# Altium schematic symbol library CHXXX.schlib: 635 symbols (part 2 of 9)
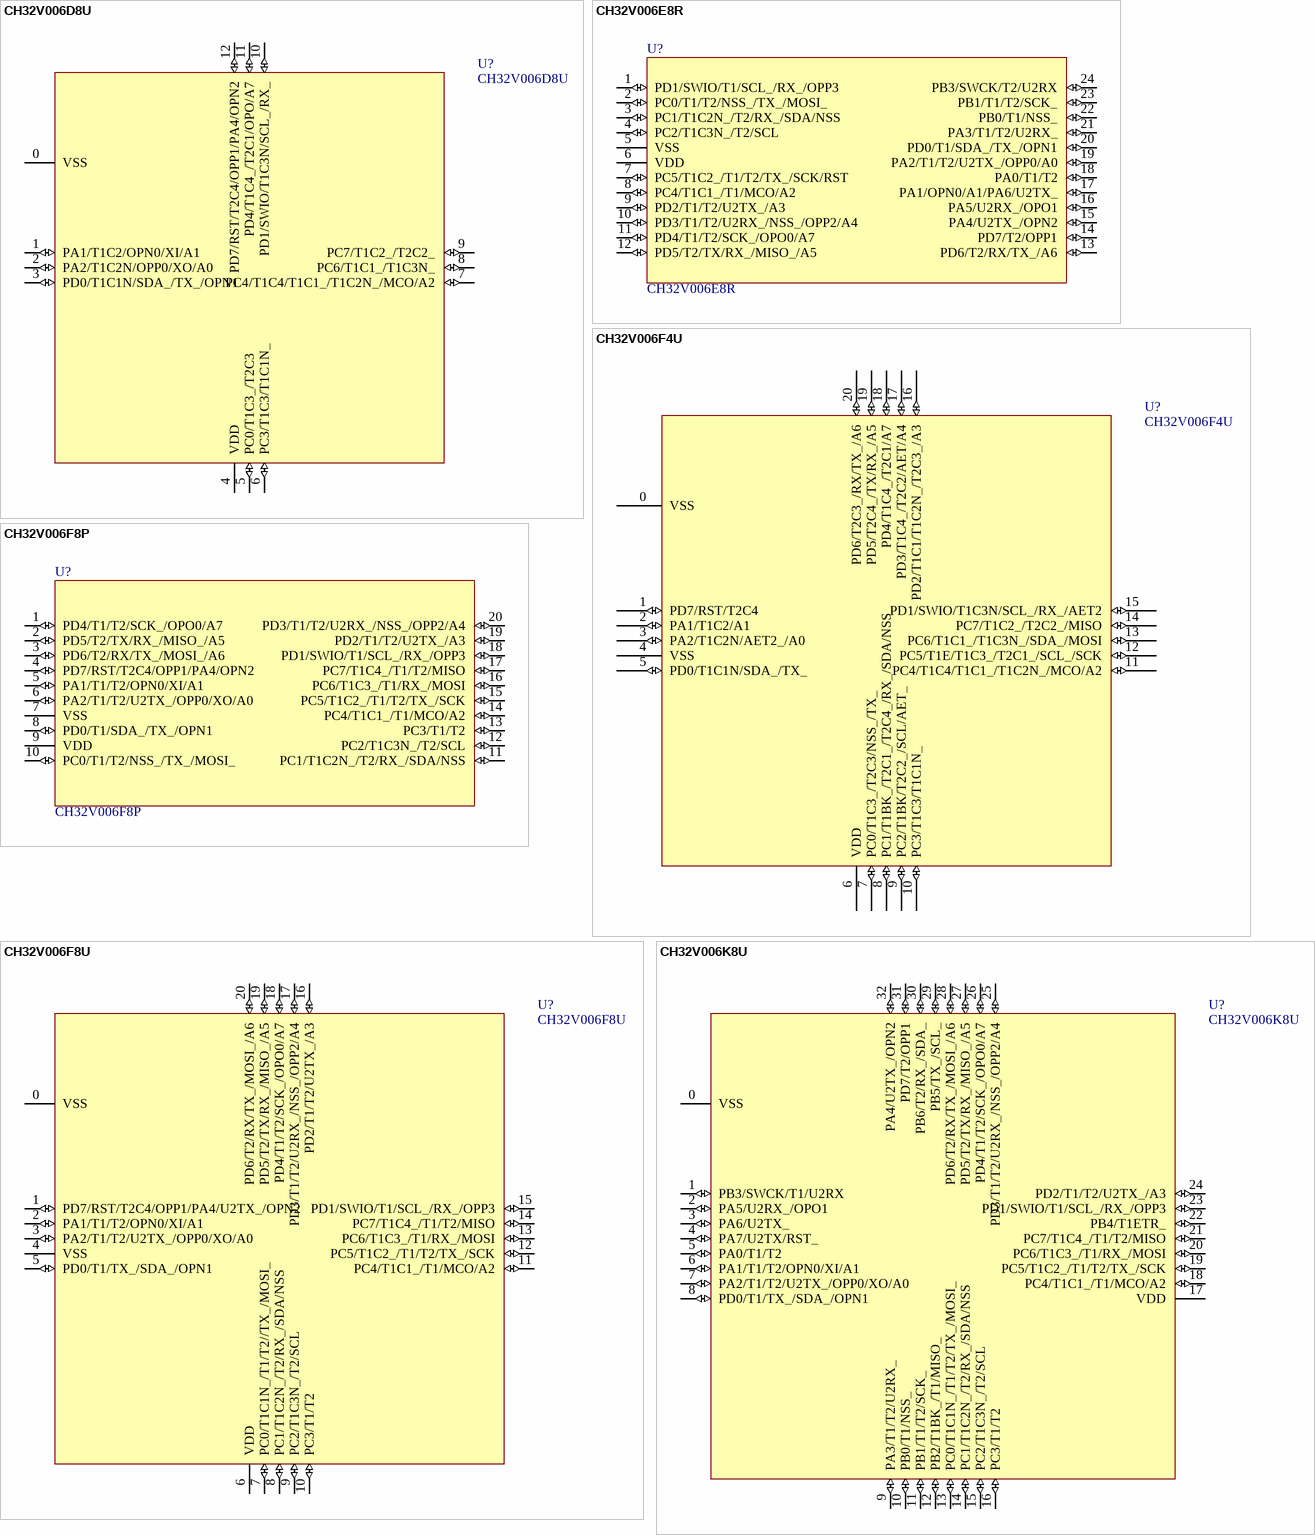
[diagram p87: symbols CH32V006D8U to CH32V006K8U]

## CH32V006F4U
designator U?
RISC-V MCU, 48MHz
footprint QFN20_3X3
pins: 0 VSS (power), 1 PD7/RST/T2C4 (io), 2 PA1/T1C2/A1 (io), 3 PA2/T1C2N/AET2_/A0 (io), 4 VSS (power), 5 PD0/T1C1N/SDA_/TX_ (io), 6 VDD (power), 7 PC0/T1C3_/T2C3/NSS_/TX_ (io), 8 PC1/T1BK_/T2C1_/T2C4_/RX_/SDA/NSS (io), 9 PC2/T1BK/T2C2_/SCL/AET_ (io), 10 PC3/T1C3/T1C1N_ (io), 11 PC4/T1C4/T1C1_/T1C2N_/MCO/A2 (io), 12 PC5/T1E/T1C3_/T2C1_/SCL_/SCK (io), 13 PC6/T1C1_/T1C3N_/SDA_/MOSI (io), 14 PC7/T1C2_/T2C2_/MISO (io), 15 PD1/SWIO/T1C3N/SCL_/RX_/AET2 (io), 16 PD2/T1C1/T1C2N_/T2C3_/A3 (io), 17 PD3/T1C4_/T2C2/AET/A4 (io), 18 PD4/T1C4_/T2C1/A7 (io), 19 PD5/T2C4_/TX/RX_/A5 (io), 20 PD6/T2C3_/RX/TX_/A6 (io)

## CH32V006F8P
designator U?
RISC-V MCU, 48MHz, ADC/OPA/2*UART/I2C/SPI
footprint TSSOP20
pins: 1 PD4/T1/T2/SCK_/OPO0/A7 (io), 2 PD5/T2/TX/RX_/MISO_/A5 (io), 3 PD6/T2/RX/TX_/MOSI_/A6 (io), 4 PD7/RST/T2C4/OPP1/PA4/OPN2 (io), 5 PA1/T1/T2/OPN0/XI/A1 (io), 6 PA2/T1/T2/U2TX_/OPP0/XO/A0 (io), 7 VSS (power), 8 PD0/T1/SDA_/TX_/OPN1 (io), 9 VDD (power), 10 PC0/T1/T2/NSS_/TX_/MOSI_ (io), 11 PC1/T1C2N_/T2/RX_/SDA/NSS (io), 12 PC2/T1C3N_/T2/SCL (io), 13 PC3/T1/T2 (io), 14 PC4/T1C1_/T1/MCO/A2 (io), 15 PC5/T1C2_/T1/T2/TX_/SCK (io), 16 PC6/T1C3_/T1/RX_/MOSI (io), 17 PC7/T1C4_/T1/T2/MISO (io), 18 PD1/SWIO/T1/SCL_/RX_/OPP3 (io), 19 PD2/T1/T2/U2TX_/A3 (io), 20 PD3/T1/T2/U2RX_/NSS_/OPP2/A4 (io)

## CH32V006F8U
designator U?
RISC-V MCU, 48MHz, ADC/OPA/2*UART/I2C/SPI
footprint QFN20_3X3
pins: 0 VSS (power), 1 PD7/RST/T2C4/OPP1/PA4/U2TX_/OPN2 (io), 2 PA1/T1/T2/OPN0/XI/A1 (io), 3 PA2/T1/T2/U2TX_/OPP0/XO/A0 (io), 4 VSS (power), 5 PD0/T1/TX_/SDA_/OPN1 (io), 6 VDD (power), 7 PC0/T1C1N_/T1/T2//TX_/MOSI_ (io), 8 PC1/T1C2N_/T2/RX_/SDA/NSS (io), 9 PC2/T1C3N_/T2/SCL (io), 10 PC3/T1/T2 (io), 11 PC4/T1C1_/T1/MCO/A2 (io), 12 PC5/T1C2_/T1/T2/TX_/SCK (io), 13 PC6/T1C3_/T1/RX_/MOSI (io), 14 PC7/T1C4_/T1/T2/MISO (io), 15 PD1/SWIO/T1/SCL_/RX_/OPP3 (io), 16 PD2/T1/T2/U2TX_/A3 (io), 17 PD3/T1/T2/U2RX_/NSS_/OPP2/A4 (io), 18 PD4/T1/T2/SCK_/OPO0/A7 (io), 19 PD5/T2/TX/RX_/MISO_/A5 (io), 20 PD6/T2/RX/TX_/MOSI_/A6 (io)

## CH32V006K8U
designator U?
RISC-V MCU, 48MHz, ADC/OPA/2*UART/I2C/SPI
footprint QFN32_4X4
pins: 0 VSS (power), 1 PB3/SWCK/T1/U2RX (io), 2 PA5/U2RX_/OPO1 (io), 3 PA6/U2TX_ (io), 4 PA7/U2TX/RST_ (io), 5 PA0/T1/T2 (io), 6 PA1/T1/T2/OPN0/XI/A1 (io), 7 PA2/T1/T2/U2TX_/OPP0/XO/A0 (io), 8 PD0/T1/TX_/SDA_/OPN1 (io), 9 PA3/T1/T2/U2RX_ (io), 10 PB0/T1/NSS_ (io), 11 PB1/T1/T2/SCK_ (io), 12 PB2/T1BK_/T1/MISO_ (io), 13 PC0/T1C1N_/T1/T2/TX_/MOSI_ (io), 14 PC1/T1C2N_/T2/RX_/SDA/NSS (io), 15 PC2/T1C3N_/T2/SCL (io), 16 PC3/T1/T2 (io), 17 VDD (power), 18 PC4/T1C1_/T1/MCO/A2 (io), 19 PC5/T1C2_/T1/T2/TX_/SCK (io), 20 PC6/T1C3_/T1/RX_/MOSI (io), 21 PC7/T1C4_/T1/T2/MISO (io), 22 PB4/T1ETR_ (io), 23 PD1/SWIO/T1/SCL_/RX_/OPP3 (io), 24 PD2/T1/T2/U2TX_/A3 (io), 25 PD3/T1/T2/U2RX_/NSS_/OPP2/A4 (io), 26 PD4/T1/T2/SCK_/OPO0/A7 (io), 27 PD5/T2/TX/RX_/MISO_/A5 (io), 28 PD6/T2/RX/TX_/MOSI_/A6 (io), 29 PB5/TX_/SCL_ (io), 30 PB6/T2/RX_/SDA_ (io), 31 PD7/T2/OPP1 (io), 32 PA4/U2TX_/OPN2 (io)

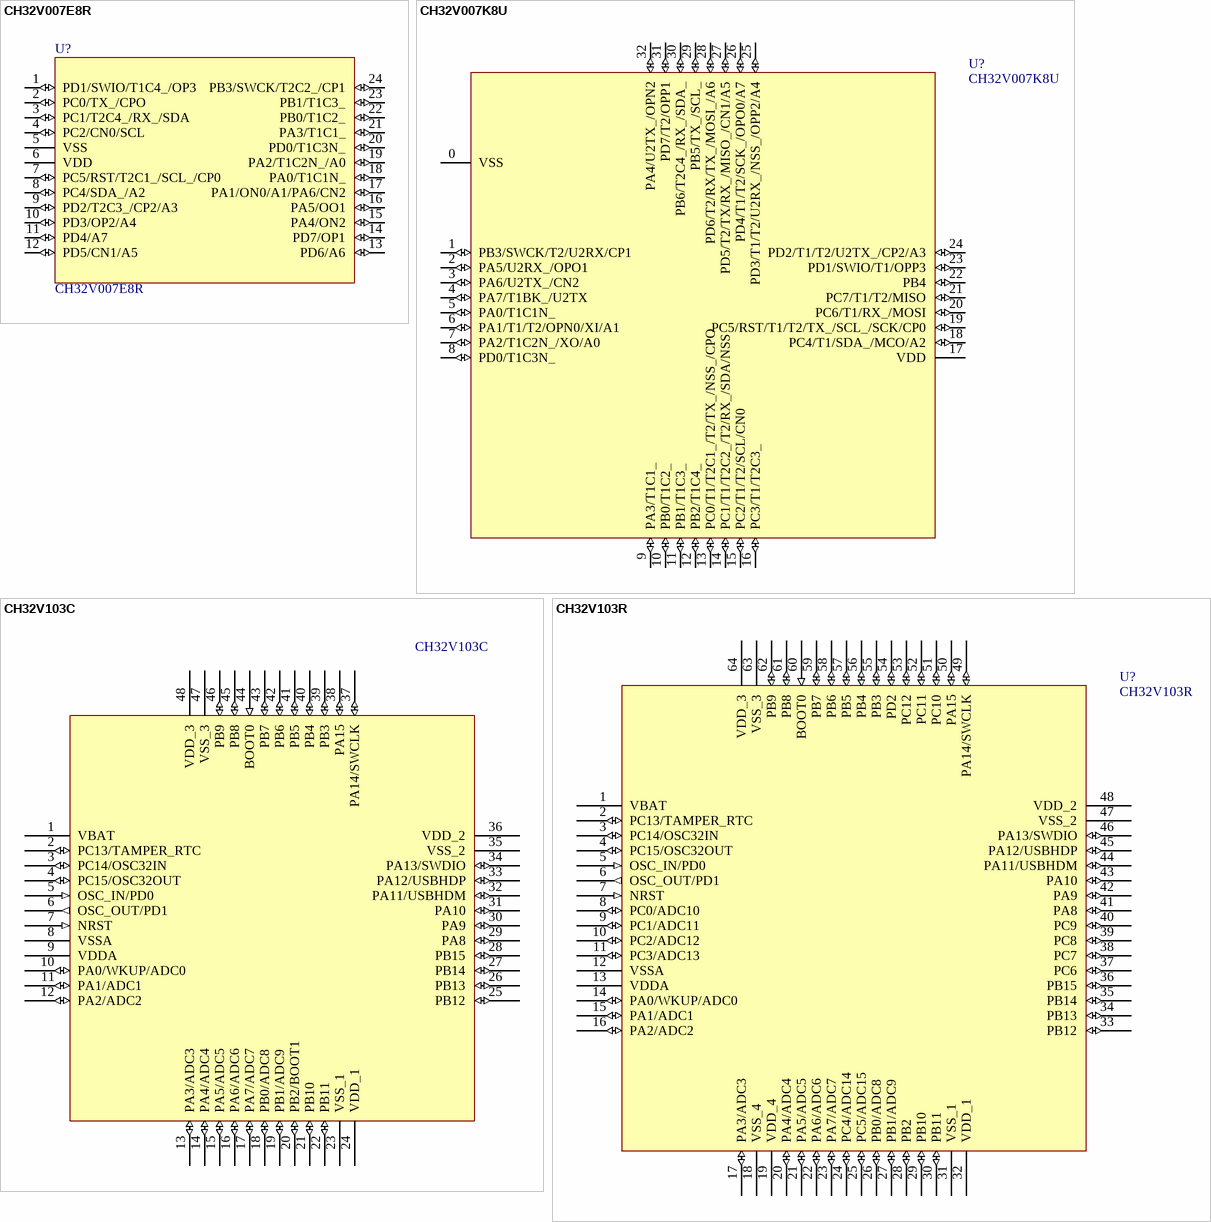
[diagram p10: symbols CH32V007E8R to CH32V103R]

## CH32V007E8R
designator U?
RISC-V MCU, ADC/OPA/CMP/2*UART/I2C/SPI
footprint QSOP24
pins: 1 PD1/SWIO/T1C4_/OP3 (io), 2 PC0/TX_/CPO (io), 3 PC1/T2C4_/RX_/SDA (io), 4 PC2/CN0/SCL (io), 5 VSS (power), 6 VDD (power), 7 PC5/RST/T2C1_/SCL_/CP0 (io), 8 PC4/SDA_/A2 (io), 9 PD2/T2C3_/CP2/A3 (io), 10 PD3/OP2/A4 (io), 11 PD4/A7 (io), 12 PD5/CN1/A5 (io), 13 PD6/A6 (io), 14 PD7/OP1 (io), 15 PA4/ON2 (io), 16 PA5/OO1 (io), 17 PA1/ON0/A1/PA6/CN2 (io), 18 PA0/T1C1N_ (io), 19 PA2/T1C2N_/A0 (io), 20 PD0/T1C3N_ (io), 21 PA3/T1C1_ (io), 22 PB0/T1C2_ (io), 23 PB1/T1C3_ (io), 24 PB3/SWCK/T2C2_/CP1 (io)

## CH32V007K8U
designator U?
RISC-V MCU, ADC/OPA/CMP/2*UART/I2C/SPI
footprint QFN32_4X4
pins: 0 VSS (power), 1 PB3/SWCK/T2/U2RX/CP1 (io), 2 PA5/U2RX_/OPO1 (io), 3 PA6/U2TX_/CN2 (io), 4 PA7/T1BK_/U2TX (io), 5 PA0/T1C1N_ (io), 6 PA1/T1/T2/OPN0/XI/A1 (io), 7 PA2/T1C2N_/XO/A0 (io), 8 PD0/T1C3N_ (io), 9 PA3/T1C1_ (io), 10 PB0/T1C2_ (io), 11 PB1/T1C3_ (io), 12 PB2/T1C4_ (io), 13 PC0/T1/T2C1_/T2/TX_/NSS_/CPO (io), 14 PC1/T1/T2C2_/T2/RX_/SDA/NSS (io), 15 PC2/T1/T2/SCL/CN0 (io), 16 PC3/T1/T2C3_ (io), 17 VDD (power), 18 PC4/T1/SDA_/MCO/A2 (io), 19 PC5/RST/T1/T2/TX_/SCL_/SCK/CP0 (io), 20 PC6/T1/RX_/MOSI (io), 21 PC7/T1/T2/MISO (io), 22 PB4 (io), 23 PD1/SWIO/T1/OPP3 (io), 24 PD2/T1/T2/U2TX_/CP2/A3 (io), 25 PD3/T1/T2/U2RX_/NSS_/OPP2/A4 (io), 26 PD4/T1/T2/SCK_/OPO0/A7 (io), 27 PD5/T2/TX/RX_/MISO_/CN1/A5 (io), 28 PD6/T2/RX/TX_/MOSI_/A6 (io), 29 PB5/TX_/SCL_ (io), 30 PB6/T2C4_/RX_/SDA_ (io), 31 PD7/T2/OPP1 (io), 32 PA4/U2TX_/OPN2 (io)

## CH32V103C
designator U?
RISC-V MCU with USB device & USB host & ADC & Touch Key
footprint LQFP48 (Footprint not found)
footprint QFN48_7X7 (Footprint not found)
pins: 1 VBAT (power), 2 PC13/TAMPER_RTC (io), 3 PC14/OSC32IN (io), 4 PC15/OSC32OUT (io), 5 OSC_IN/PD0 (in), 6 OSC_OUT/PD1 (out), 7 NRST (in), 8 VSSA, 9 VDDA, 10 PA0/WKUP/ADC0 (io), 11 PA1/ADC1 (io), 12 PA2/ADC2 (io), 13 PA3/ADC3 (io), 14 PA4/ADC4 (io), 15 PA5/ADC5 (io), 16 PA6/ADC6 (io), 17 PA7/ADC7 (io), 18 PB0/ADC8 (io), 19 PB1/ADC9 (io), 20 PB2/BOOT1 (io), 21 PB10 (io), 22 PB11 (io), 23 VSS_1, 24 VDD_1, 25 PB12 (io), 26 PB13 (io), 27 PB14 (io), 28 PB15 (io), 29 PA8 (io), 30 PA9 (io), 31 PA10 (io), 32 PA11/USBHDM (io), 33 PA12/USBHDP (io), 34 PA13/SWDIO (io), 35 VSS_2, 36 VDD_2, 37 PA14/SWCLK (io), 38 PA15 (io), 39 PB3 (io), 40 PB4 (io), 41 PB5 (io), 42 PB6 (io), 43 PB7 (io), 44 BOOT0 (in), 45 PB8 (io), 46 PB9 (io), 47 VSS_3, 48 VDD_3

## CH32V103R
designator U?
RISC-V MCU with USB device & USB host & ADC & Touch Key
footprint LQFP64M_10X10
pins: 1 VBAT (power), 2 PC13/TAMPER_RTC (io), 3 PC14/OSC32IN (io), 4 PC15/OSC32OUT (io), 5 OSC_IN/PD0 (in), 6 OSC_OUT/PD1 (out), 7 NRST (in), 8 PC0/ADC10 (io), 9 PC1/ADC11 (io), 10 PC2/ADC12 (io), 11 PC3/ADC13 (io), 12 VSSA (power), 13 VDDA (power), 14 PA0/WKUP/ADC0 (io), 15 PA1/ADC1 (io), 16 PA2/ADC2 (io), 17 PA3/ADC3 (io), 18 VSS_4 (power), 19 VDD_4 (power), 20 PA4/ADC4 (io), 21 PA5/ADC5 (io), 22 PA6/ADC6 (io), 23 PA7/ADC7 (io), 24 PC4/ADC14 (io), 25 PC5/ADC15 (io), 26 PB0/ADC8 (io), 27 PB1/ADC9 (io), 28 PB2 (io), 29 PB10 (io), 30 PB11 (io), 31 VSS_1 (power), 32 VDD_1 (power), 33 PB12 (io), 34 PB13 (io), 35 PB14 (io), 36 PB15 (io), 37 PC6 (io), 38 PC7 (io), 39 PC8 (io), 40 PC9 (io), 41 PA8 (io), 42 PA9 (io), 43 PA10 (io), 44 PA11/USBHDM (io), 45 PA12/USBHDP (io), 46 PA13/SWDIO (io), 47 VSS_2 (power), 48 VDD_2 (power), 49 PA14/SWCLK (io), 50 PA15 (io), 51 PC10 (io), 52 PC11 (io), 53 PC12 (io), 54 PD2 (io), 55 PB3 (io), 56 PB4 (io), 57 PB5 (io), 58 PB6 (io), 59 PB7 (io), 60 BOOT0 (in), 61 PB8 (io), 62 PB9 (io), 63 VSS_3 (power), 64 VDD_3 (power)

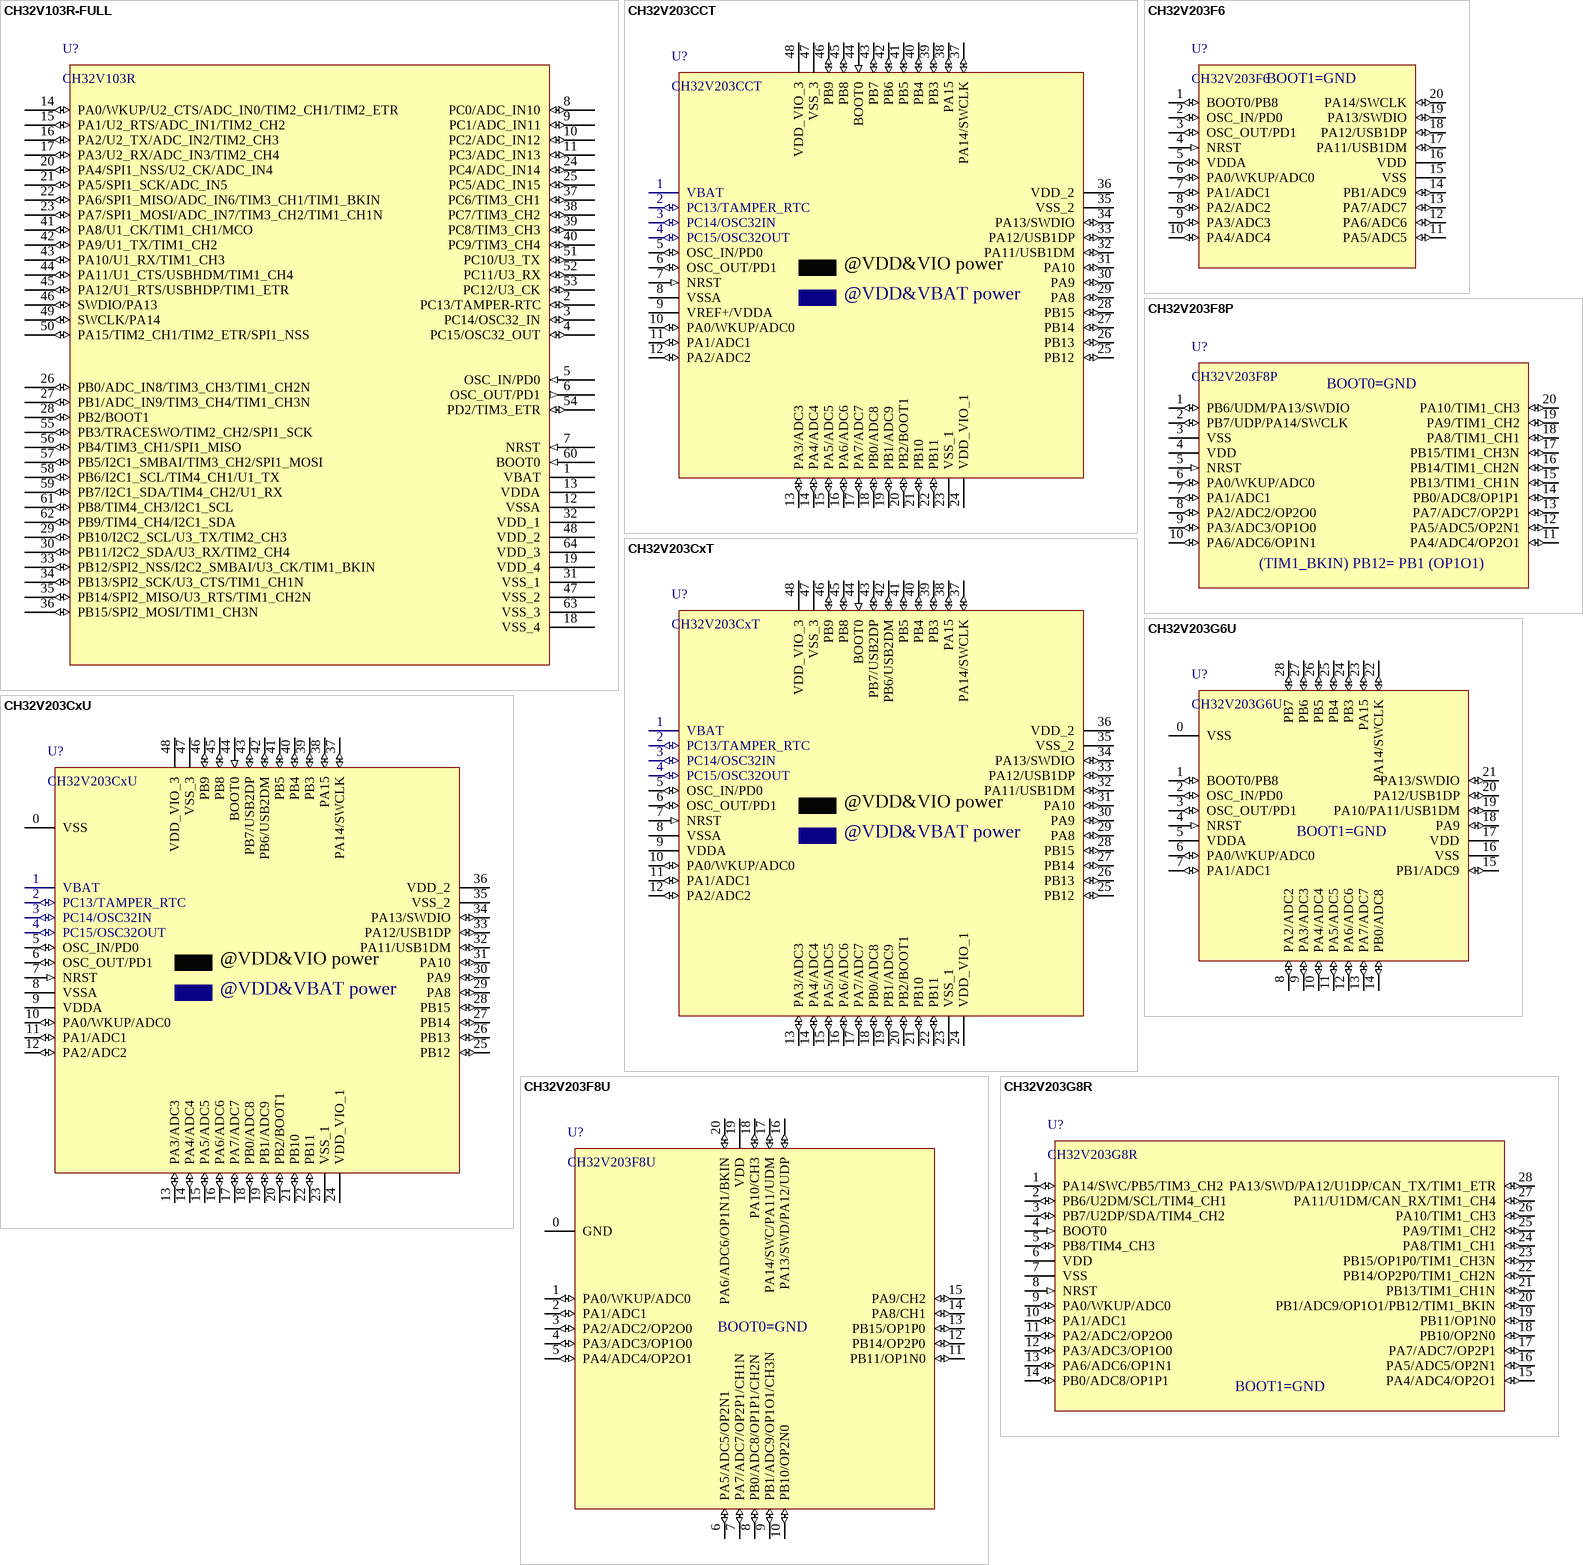
[diagram p11: symbols CH32V103R-FULL to CH32V203G8R]

## CH32V103R-FULL
designator U?, comment CH32V103R
RISC-V MCU with USB device & USB host & ADC & Touch Key
footprint LQFP64M_10X10 (Footprint not found)
pins: 1 VBAT (power), 2 PC13/TAMPER-RTC (io), 3 PC14/OSC32_IN (io), 4 PC15/OSC32_OUT (io), 5 OSC_IN/PD0 (in), 6 OSC_OUT/PD1 (out), 7 NRST (in), 8 PC0/ADC_IN10 (io), 9 PC1/ADC_IN11 (io), 10 PC2/ADC_IN12 (io), 11 PC3/ADC_IN13 (io), 12 VSSA (power), 13 VDDA (power), 14 PA0/WKUP/U2_CTS/ADC_IN0/TIM2_CH1/TIM2_ETR (io), 15 PA1/U2_RTS/ADC_IN1/TIM2_CH2 (io), 16 PA2/U2_TX/ADC_IN2/TIM2_CH3 (io), 17 PA3/U2_RX/ADC_IN3/TIM2_CH4 (io), 18 VSS_4 (power), 19 VDD_4 (power), 20 PA4/SPI1_NSS/U2_CK/ADC_IN4 (io), 21 PA5/SPI1_SCK/ADC_IN5 (io), 22 PA6/SPI1_MISO/ADC_IN6/TIM3_CH1/TIM1_BKIN (io), 23 PA7/SPI1_MOSI/ADC_IN7/TIM3_CH2/TIM1_CH1N (io), 24 PC4/ADC_IN14 (io), 25 PC5/ADC_IN15 (io), 26 PB0/ADC_IN8/TIM3_CH3/TIM1_CH2N (io), 27 PB1/ADC_IN9/TIM3_CH4/TIM1_CH3N (io), 28 PB2/BOOT1 (io), 29 PB10/I2C2_SCL/U3_TX/TIM2_CH3 (io), 30 PB11/I2C2_SDA/U3_RX/TIM2_CH4 (io), 31 VSS_1 (power), 32 VDD_1 (power), 33 PB12/SPI2_NSS/I2C2_SMBAI/U3_CK/TIM1_BKIN (io), 34 PB13/SPI2_SCK/U3_CTS/TIM1_CH1N  (io), 35 PB14/SPI2_MISO/U3_RTS/TIM1_CH2N (io), 36 PB15/SPI2_MOSI/TIM1_CH3N (io), 37 PC6/TIM3_CH1 (io), 38 PC7/TIM3_CH2 (io), 39 PC8/TIM3_CH3 (io), 40 PC9/TIM3_CH4 (io), 41 PA8/U1_CK/TIM1_CH1/MCO (io), 42 PA9/U1_TX/TIM1_CH2 (io), 43 PA10/U1_RX/TIM1_CH3 (io), 44 PA11/U1_CTS/USBHDM/TIM1_CH4 (io), 45 PA12/U1_RTS/USBHDP/TIM1_ETR (io), 46 SWDIO/PA13 (io), 47 VSS_2 (power), 48 VDD_2 (power), 49 SWCLK/PA14 (io), 50 PA15/TIM2_CH1/TIM2_ETR/SPI1_NSS (io), 51 PC10/U3_TX (io), 52 PC11/U3_RX (io), 53 PC12/U3_CK (io), 54 PD2/TIM3_ETR (io), 55 PB3/TRACESWO/TIM2_CH2/SPI1_SCK (io), 56 PB4/TIM3_CH1/SPI1_MISO (io), 57 PB5/I2C1_SMBAI/TIM3_CH2/SPI1_MOSI (io), 58 PB6/I2C1_SCL/TIM4_CH1/U1_TX (io), 59 PB7/I2C1_SDA/TIM4_CH2/U1_RX (io), 60 BOOT0 (in), 61 PB8/TIM4_CH3/I2C1_SCL (io), 62 PB9/TIM4_CH4/I2C1_SDA (io), 63 VSS_3 (power), 64 VDD_3 (power)

## CH32V203CCT
designator U?
RISC-V MCU, 192MHz, USB FS, PIOC, ADC, TKEY, 2*OPA, 2*CMP
footprint LQFP48
pins: 1 VBAT (power), 2 PC13/TAMPER_RTC (io), 3 PC14/OSC32IN (io), 4 PC15/OSC32OUT (io), 5 OSC_IN/PD0 (io), 6 OSC_OUT/PD1 (io), 7 NRST (in), 8 VSSA (power), 9 VREF+/VDDA (power), 10 PA0/WKUP/ADC0 (io), 11 PA1/ADC1 (io), 12 PA2/ADC2 (io), 13 PA3/ADC3 (io), 14 PA4/ADC4 (io), 15 PA5/ADC5 (io), 16 PA6/ADC6 (io), 17 PA7/ADC7 (io), 18 PB0/ADC8 (io), 19 PB1/ADC9 (io), 20 PB2/BOOT1 (io), 21 PB10 (io), 22 PB11 (io), 23 VSS_1 (power), 24 VDD_VIO_1 (power), 25 PB12 (io), 26 PB13 (io), 27 PB14 (io), 28 PB15 (io), 29 PA8 (io), 30 PA9 (io), 31 PA10 (io), 32 PA11/USB1DM (io), 33 PA12/USB1DP (io), 34 PA13/SWDIO (io), 35 VSS_2 (power), 36 VDD_2 (power), 37 PA14/SWCLK (io), 38 PA15 (io), 39 PB3 (io), 40 PB4 (io), 41 PB5 (io), 42 PB6 (io), 43 PB7 (io), 44 BOOT0 (in), 45 PB8 (io), 46 PB9 (io), 47 VSS_3 (power), 48 VDD_VIO_3 (power)
text: @VDD&VIO power; @VDD&VBAT power

## CH32V203CxT
designator U?
RISC-V LMD-MCU, 144MHz, 2*USB FS, CAN
footprint LQFP48
pins: 1 VBAT (power), 2 PC13/TAMPER_RTC (io), 3 PC14/OSC32IN (io), 4 PC15/OSC32OUT (io), 5 OSC_IN/PD0 (io), 6 OSC_OUT/PD1 (io), 7 NRST (in), 8 VSSA (power), 9 VDDA (power), 10 PA0/WKUP/ADC0 (io), 11 PA1/ADC1 (io), 12 PA2/ADC2 (io), 13 PA3/ADC3 (io), 14 PA4/ADC4 (io), 15 PA5/ADC5 (io), 16 PA6/ADC6 (io), 17 PA7/ADC7 (io), 18 PB0/ADC8 (io), 19 PB1/ADC9 (io), 20 PB2/BOOT1 (io), 21 PB10 (io), 22 PB11 (io), 23 VSS_1 (power), 24 VDD_VIO_1 (power), 25 PB12 (io), 26 PB13 (io), 27 PB14 (io), 28 PB15 (io), 29 PA8 (io), 30 PA9 (io), 31 PA10 (io), 32 PA11/USB1DM (io), 33 PA12/USB1DP (io), 34 PA13/SWDIO (io), 35 VSS_2 (power), 36 VDD_2 (power), 37 PA14/SWCLK (io), 38 PA15 (io), 39 PB3 (io), 40 PB4 (io), 41 PB5 (io), 42 PB6/USB2DM (io), 43 PB7/USB2DP (io), 44 BOOT0 (in), 45 PB8 (io), 46 PB9 (io), 47 VSS_3 (power), 48 VDD_VIO_3 (power)
text: @VDD&VIO power; @VDD&VBAT power

## CH32V203CxU
designator U?
RISC-V LMD-MCU, 144MHz, 2*USB FS, CAN
footprint QFN48_7X7 (Footprint not found)
pins: 0 VSS (power), 1 VBAT (power), 2 PC13/TAMPER_RTC (io), 3 PC14/OSC32IN (io), 4 PC15/OSC32OUT (io), 5 OSC_IN/PD0 (io), 6 OSC_OUT/PD1 (io), 7 NRST (in), 8 VSSA (power), 9 VDDA (power), 10 PA0/WKUP/ADC0 (io), 11 PA1/ADC1 (io), 12 PA2/ADC2 (io), 13 PA3/ADC3 (io), 14 PA4/ADC4 (io), 15 PA5/ADC5 (io), 16 PA6/ADC6 (io), 17 PA7/ADC7 (io), 18 PB0/ADC8 (io), 19 PB1/ADC9 (io), 20 PB2/BOOT1 (io), 21 PB10 (io), 22 PB11 (io), 23 VSS_1 (power), 24 VDD_VIO_1 (power), 25 PB12 (io), 26 PB13 (io), 27 PB14 (io), 28 PB15 (io), 29 PA8 (io), 30 PA9 (io), 31 PA10 (io), 32 PA11/USB1DM (io), 33 PA12/USB1DP (io), 34 PA13/SWDIO (io), 35 VSS_2 (power), 36 VDD_2 (power), 37 PA14/SWCLK (io), 38 PA15 (io), 39 PB3 (io), 40 PB4 (io), 41 PB5 (io), 42 PB6/USB2DM (io), 43 PB7/USB2DP (io), 44 BOOT0 (in), 45 PB8 (io), 46 PB9 (io), 47 VSS_3 (power), 48 VDD_VIO_3 (power)
text: @VDD&VIO power; @VDD&VBAT power

## CH32V203F6
designator U?
RISC-V LMD-MCU, 144MHz, USB FS, CAN, Mul-ADC,OPA
footprint TSSOP20
pins: 1 BOOT0/PB8 (io), 2 OSC_IN/PD0 (io), 3 OSC_OUT/PD1 (io), 4 NRST (in), 5 VDDA (io), 6 PA0/WKUP/ADC0 (io), 7 PA1/ADC1 (io), 8 PA2/ADC2 (io), 9 PA3/ADC3 (io), 10 PA4/ADC4 (io), 11 PA5/ADC5 (io), 12 PA6/ADC6 (io), 13 PA7/ADC7 (io), 14 PB1/ADC9 (io), 15 VSS (power), 16 VDD (power), 17 PA11/USB1DM (io), 18 PA12/USB1DP (io), 19 PA13/SWDIO (io), 20 PA14/SWCLK (io)
text: BOOT1=GND

## CH32V203F8P
designator U?
RISC-V LMD-MCU, 144MHz, for motor
footprint TSSOP20
pins: 1 PB6/UDM/PA13/SWDIO (io), 2 PB7/UDP/PA14/SWCLK (io), 3 VSS (power), 4 VDD (power), 5 NRST (in), 6 PA0/WKUP/ADC0 (io), 7 PA1/ADC1 (io), 8 PA2/ADC2/OP2O0 (io), 9 PA3/ADC3/OP1O0 (io), 10 PA6/ADC6/OP1N1 (io), 11 PA4/ADC4/OP2O1 (io), 12 PA5/ADC5/OP2N1 (io), 13 PA7/ADC7/OP2P1 (io), 14 PB0/ADC8/OP1P1 (io), 15 PB13/TIM1_CH1N (io), 16 PB14/TIM1_CH2N (io), 17 PB15/TIM1_CH3N (io), 18 PA8/TIM1_CH1 (io), 19 PA9/TIM1_CH2 (io), 20 PA10/TIM1_CH3 (io)
text: BOOT0=GND; (TIM1_BKIN) PB12= PB1 (OP1O1)

## CH32V203F8U
designator U?
RISC-V LMD-MCU, 144MHz, for motor & wireless charging
footprint QFN20_3X3
pins: 0 GND (power), 1 PA0/WKUP/ADC0 (io), 2 PA1/ADC1 (io), 3 PA2/ADC2/OP2O0 (io), 4 PA3/ADC3/OP1O0 (io), 5 PA4/ADC4/OP2O1 (io), 6 PA5/ADC5/OP2N1 (io), 7 PA7/ADC7/OP2P1/CH1N (io), 8 PB0/ADC8/OP1P1/CH2N (io), 9 PB1/ADC9/OP1O1/CH3N (io), 10 PB10/OP2N0 (io), 11 PB11/OP1N0 (io), 12 PB14/OP2P0 (io), 13 PB15/OP1P0 (io), 14 PA8/CH1 (io), 15 PA9/CH2 (io), 16 PA13/SWD/PA12/UDP (io), 17 PA14/SWC/PA11/UDM (io), 18 PA10/CH3 (io), 19 VDD (power), 20 PA6/ADC6/OP1N1/BKIN (io)
text: BOOT0=GND

## CH32V203G6U
designator U?
RISC-V LMD-MCU, 144MHz, USB FS, CAN, Mul-ADC,OPA
footprint QFN28_4X4
pins: 0 VSS (power), 1 BOOT0/PB8 (io), 2 OSC_IN/PD0 (io), 3 OSC_OUT/PD1 (io), 4 NRST (in), 5 VDDA (power), 6 PA0/WKUP/ADC0 (io), 7 PA1/ADC1 (io), 8 PA2/ADC2 (io), 9 PA3/ADC3 (io), 10 PA4/ADC4 (io), 11 PA5/ADC5 (io), 12 PA6/ADC6 (io), 13 PA7/ADC7 (io), 14 PB0/ADC8 (io), 15 PB1/ADC9 (io), 16 VSS (power), 17 VDD (power), 18 PA9 (io), 19 PA10/PA11/USB1DM (io), 20 PA12/USB1DP (io), 21 PA13/SWDIO (io), 22 PA14/SWCLK (io), 23 PA15 (io), 24 PB3 (io), 25 PB4 (io), 26 PB5 (io), 27 PB6 (io), 28 PB7 (io)
text: BOOT1=GND

## CH32V203G8R
designator U?
RISC-V LMD-MCU, 144MHz, for motor & wireless charging
footprint QSOP28
pins: 1 PA14/SWC/PB5/TIM3_CH2 (io), 2 PB6/U2DM/SCL/TIM4_CH1 (io), 3 PB7/U2DP/SDA/TIM4_CH2 (io), 4 BOOT0 (in), 5 PB8/TIM4_CH3 (io), 6 VDD (power), 7 VSS (power), 8 NRST (in), 9 PA0/WKUP/ADC0 (io), 10 PA1/ADC1 (io), 11 PA2/ADC2/OP2O0 (io), 12 PA3/ADC3/OP1O0 (io), 13 PA6/ADC6/OP1N1 (io), 14 PB0/ADC8/OP1P1 (io), 15 PA4/ADC4/OP2O1 (io), 16 PA5/ADC5/OP2N1 (io), 17 PA7/ADC7/OP2P1 (io), 18 PB10/OP2N0 (io), 19 PB11/OP1N0 (io), 20 PB1/ADC9/OP1O1/PB12/TIM1_BKIN (io), 21 PB13/TIM1_CH1N (io), 22 PB14/OP2P0/TIM1_CH2N (io), 23 PB15/OP1P0/TIM1_CH3N (io), 24 PA8/TIM1_CH1 (io), 25 PA9/TIM1_CH2 (io), 26 PA10/TIM1_CH3 (io), 27 PA11/U1DM/CAN_RX/TIM1_CH4 (io), 28 PA13/SWD/PA12/U1DP/CAN_TX/TIM1_ETR (io)
text: BOOT1=GND

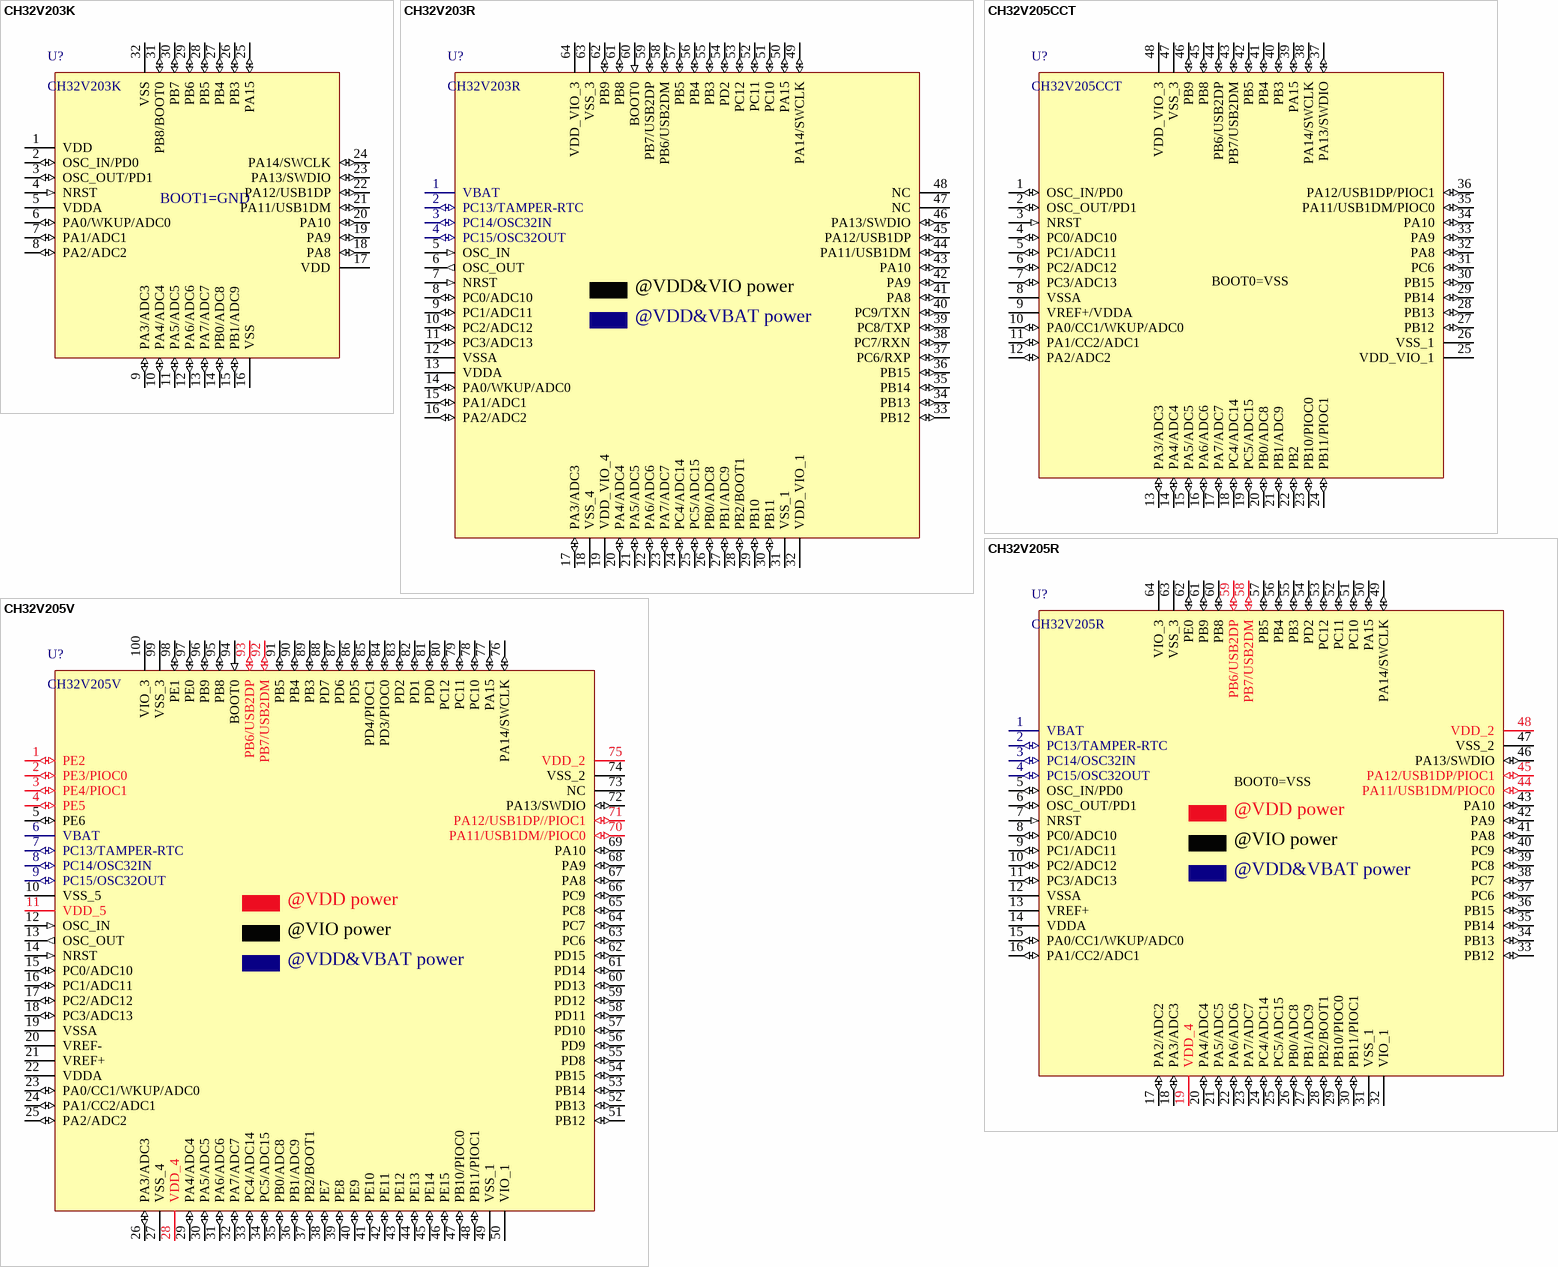
[diagram p12: symbols CH32V203K to CH32V205V]

## CH32V203K
designator U?
RISC-V LMD-MCU, 144MHz, USB FS, CAN
footprint LQFP32
pins: 1 VDD (power), 2 OSC_IN/PD0 (io), 3 OSC_OUT/PD1 (io), 4 NRST (in), 5 VDDA (power), 6 PA0/WKUP/ADC0 (io), 7 PA1/ADC1 (io), 8 PA2/ADC2 (io), 9 PA3/ADC3 (io), 10 PA4/ADC4 (io), 11 PA5/ADC5 (io), 12 PA6/ADC6 (io), 13 PA7/ADC7 (io), 14 PB0/ADC8 (io), 15 PB1/ADC9 (io), 16 VSS (power), 17 VDD (power), 18 PA8 (io), 19 PA9 (io), 20 PA10 (io), 21 PA11/USB1DM (io), 22 PA12/USB1DP (io), 23 PA13/SWDIO (io), 24 PA14/SWCLK (io), 25 PA15 (io), 26 PB3 (io), 27 PB4 (io), 28 PB5 (io), 29 PB6 (io), 30 PB7 (io), 31 PB8/BOOT0 (io), 32 VSS (power)
text: BOOT1=GND

## CH32V203R
designator U?
RISC-V HD-MCU, 10M Ethernet, 2*USB, CAN
footprint LQFP64M_10X10
pins: 1 VBAT (power), 2 PC13/TAMPER-RTC (io), 3 PC14/OSC32IN (io), 4 PC15/OSC32OUT (io), 5 OSC_IN (in), 6 OSC_OUT (out), 7 NRST (in), 8 PC0/ADC10 (io), 9 PC1/ADC11 (io), 10 PC2/ADC12 (io), 11 PC3/ADC13 (io), 12 VSSA (power), 13 VDDA (power), 14 PA0/WKUP/ADC0 (io), 15 PA1/ADC1 (io), 16 PA2/ADC2 (io), 17 PA3/ADC3 (io), 18 VSS_4 (power), 19 VDD_VIO_4 (power), 20 PA4/ADC4 (io), 21 PA5/ADC5 (io), 22 PA6/ADC6 (io), 23 PA7/ADC7 (io), 24 PC4/ADC14 (io), 25 PC5/ADC15 (io), 26 PB0/ADC8 (io), 27 PB1/ADC9 (io), 28 PB2/BOOT1 (io), 29 PB10 (io), 30 PB11 (io), 31 VSS_1 (power), 32 VDD_VIO_1 (power), 33 PB12 (io), 34 PB13 (io), 35 PB14 (io), 36 PB15 (io), 37 PC6/RXP (io), 38 PC7/RXN (io), 39 PC8/TXP (io), 40 PC9/TXN (io), 41 PA8 (io), 42 PA9 (io), 43 PA10 (io), 44 PA11/USB1DM (io), 45 PA12/USB1DP (io), 46 PA13/SWDIO (io), 47 NC (power), 48 NC (power), 49 PA14/SWCLK (io), 50 PA15 (io), 51 PC10 (io), 52 PC11 (io), 53 PC12 (io), 54 PD2 (io), 55 PB3 (io), 56 PB4 (io), 57 PB5 (io), 58 PB6/USB2DM (io), 59 PB7/USB2DP (io), 60 BOOT0 (in), 61 PB8 (io), 62 PB9 (io), 63 VSS_3 (power), 64 VDD_VIO_3 (power)
text: @VDD&VIO power; @VDD&VBAT power

## CH32V205CCT
designator U?
RISC-V MCU, 192MHz, USB_480M, USB FS, PD, PIOC, ADC, TKEY, 2*OPA, 2*CMP
footprint LQFP48
pins: 1 OSC_IN/PD0 (io), 2 OSC_OUT/PD1 (io), 3 NRST (in), 4 PC0/ADC10 (io), 5 PC1/ADC11 (io), 6 PC2/ADC12 (io), 7 PC3/ADC13 (io), 8 VSSA (power), 9 VREF+/VDDA (power), 10 PA0/CC1/WKUP/ADC0 (io), 11 PA1/CC2/ADC1 (io), 12 PA2/ADC2 (io), 13 PA3/ADC3 (io), 14 PA4/ADC4 (io), 15 PA5/ADC5 (io), 16 PA6/ADC6 (io), 17 PA7/ADC7 (io), 18 PC4/ADC14 (io), 19 PC5/ADC15 (io), 20 PB0/ADC8 (io), 21 PB1/ADC9 (io), 22 PB2 (io), 23 PB10/PIOC0 (io), 24 PB11/PIOC1 (io), 25 VDD_VIO_1 (power), 26 VSS_1 (power), 27 PB12 (io), 28 PB13 (io), 29 PB14 (io), 30 PB15 (io), 31 PC6 (io), 32 PA8 (io), 33 PA9 (io), 34 PA10 (io), 35 PA11/USB1DM/PIOC0 (io), 36 PA12/USB1DP/PIOC1 (io), 37 PA13/SWDIO (io), 38 PA14/SWCLK (io), 39 PA15 (io), 40 PB3 (io), 41 PB4 (io), 42 PB5 (io), 43 PB7/USB2DM (io), 44 PB6/USB2DP (io), 45 PB8 (io), 46 PB9 (io), 47 VSS_3 (power), 48 VDD_VIO_3 (power)
text: BOOT0=VSS

## CH32V205R
designator U?
RISC-V MCU, 192MHz, USB_480M, USB FS, PD, PIOC, ADC, TKEY, 2*OPA, 2*CMP
footprint LQFP64_7X7 (Footprint not found)
pins: 1 VBAT (power), 2 PC13/TAMPER-RTC (io), 3 PC14/OSC32IN (io), 4 PC15/OSC32OUT (io), 5 OSC_IN/PD0 (io), 6 OSC_OUT/PD1 (io), 7 NRST (in), 8 PC0/ADC10 (io), 9 PC1/ADC11 (io), 10 PC2/ADC12 (io), 11 PC3/ADC13 (io), 12 VSSA (power), 13 VREF+ (power), 14 VDDA (power), 15 PA0/CC1/WKUP/ADC0 (io), 16 PA1/CC2/ADC1 (io), 17 PA2/ADC2 (io), 18 PA3/ADC3 (io), 19 VDD_4 (power), 20 PA4/ADC4 (io), 21 PA5/ADC5 (io), 22 PA6/ADC6 (io), 23 PA7/ADC7 (io), 24 PC4/ADC14 (io), 25 PC5/ADC15 (io), 26 PB0/ADC8 (io), 27 PB1/ADC9 (io), 28 PB2/BOOT1 (io), 29 PB10/PIOC0 (io), 30 PB11/PIOC1 (io), 31 VSS_1 (power), 32 VIO_1 (power), 33 PB12 (io), 34 PB13 (io), 35 PB14 (io), 36 PB15 (io), 37 PC6 (io), 38 PC7 (io), 39 PC8 (io), 40 PC9 (io), 41 PA8 (io), 42 PA9 (io), 43 PA10 (io), 44 PA11/USB1DM/PIOC0 (io), 45 PA12/USB1DP/PIOC1 (io), 46 PA13/SWDIO (io), 47 VSS_2 (power), 48 VDD_2 (power), 49 PA14/SWCLK (io), 50 PA15 (io), 51 PC10 (io), 52 PC11 (io), 53 PC12 (io), 54 PD2 (io), 55 PB3 (io), 56 PB4 (io), 57 PB5 (io), 58 PB7/USB2DM (io), 59 PB6/USB2DP (io), 60 PB8 (io), 61 PB9 (io), 62 PE0 (io), 63 VSS_3 (power), 64 VIO_3 (power)
text: BOOT0=VSS; @VDD power; @VIO power; @VDD&VBAT power

## CH32V205V
designator U?
RISC-V MCU, 192MHz, USB_480M, USB FS, PD, PIOC, ADC, TKEY, 2*OPA, 2*CMP
footprint LQFP100
pins: 1 PE2 (io), 2 PE3/PIOC0 (io), 3 PE4/PIOC1 (io), 4 PE5 (io), 5 PE6 (io), 6 VBAT (power), 7 PC13/TAMPER-RTC (io), 8 PC14/OSC32IN (io), 9 PC15/OSC32OUT (io), 10 VSS_5 (power), 11 VDD_5 (power), 12 OSC_IN (in), 13 OSC_OUT (out), 14 NRST (in), 15 PC0/ADC10 (io), 16 PC1/ADC11 (io), 17 PC2/ADC12 (io), 18 PC3/ADC13 (io), 19 VSSA (power), 20 VREF- (power), 21 VREF+ (power), 22 VDDA (power), 23 PA0/CC1/WKUP/ADC0 (io), 24 PA1/CC2/ADC1 (io), 25 PA2/ADC2 (io), 26 PA3/ADC3 (io), 27 VSS_4 (power), 28 VDD_4 (power), 29 PA4/ADC4 (io), 30 PA5/ADC5 (io), 31 PA6/ADC6 (io), 32 PA7/ADC7 (io), 33 PC4/ADC14 (io), 34 PC5/ADC15 (io), 35 PB0/ADC8 (io), 36 PB1/ADC9 (io), 37 PB2/BOOT1 (io), 38 PE7 (io), 39 PE8 (io), 40 PE9 (io), 41 PE10 (io), 42 PE11 (io), 43 PE12 (io), 44 PE13 (io), 45 PE14 (io), 46 PE15 (io), 47 PB10/PIOC0 (io), 48 PB11/PIOC1 (io), 49 VSS_1 (power), 50 VIO_1 (power), 51 PB12 (io), 52 PB13 (io), 53 PB14 (io), 54 PB15 (io), 55 PD8 (io), 56 PD9 (io), 57 PD10 (io), 58 PD11 (io), 59 PD12 (io), 60 PD13 (io), 61 PD14 (io), 62 PD15 (io), 63 PC6 (io), 64 PC7 (io), 65 PC8 (io), 66 PC9 (io), 67 PA8 (io), 68 PA9 (io), 69 PA10 (io), 70 PA11/USB1DM//PIOC0 (io), 71 PA12/USB1DP//PIOC1 (io), 72 PA13/SWDIO (io), 73 NC (hiz), 74 VSS_2 (power), 75 VDD_2 (power), 76 PA14/SWCLK (io), 77 PA15 (io), 78 PC10 (io), 79 PC11 (io), 80 PC12 (io), 81 PD0 (io), 82 PD1 (io), 83 PD2 (io), 84 PD3/PIOC0 (io), 85 PD4/PIOC1 (io), 86 PD5 (io), 87 PD6 (io), 88 PD7 (io), 89 PB3 (io), 90 PB4 (io), 91 PB5 (io), 92 PB7/USB2DM (io), 93 PB6/USB2DP (io), 94 BOOT0 (in), 95 PB8 (io), 96 PB9 (io), 97 PE0 (io), 98 PE1 (io), 99 VSS_3 (power), 100 VIO_3 (power)
text: @VDD power; @VIO power; @VDD&VBAT power

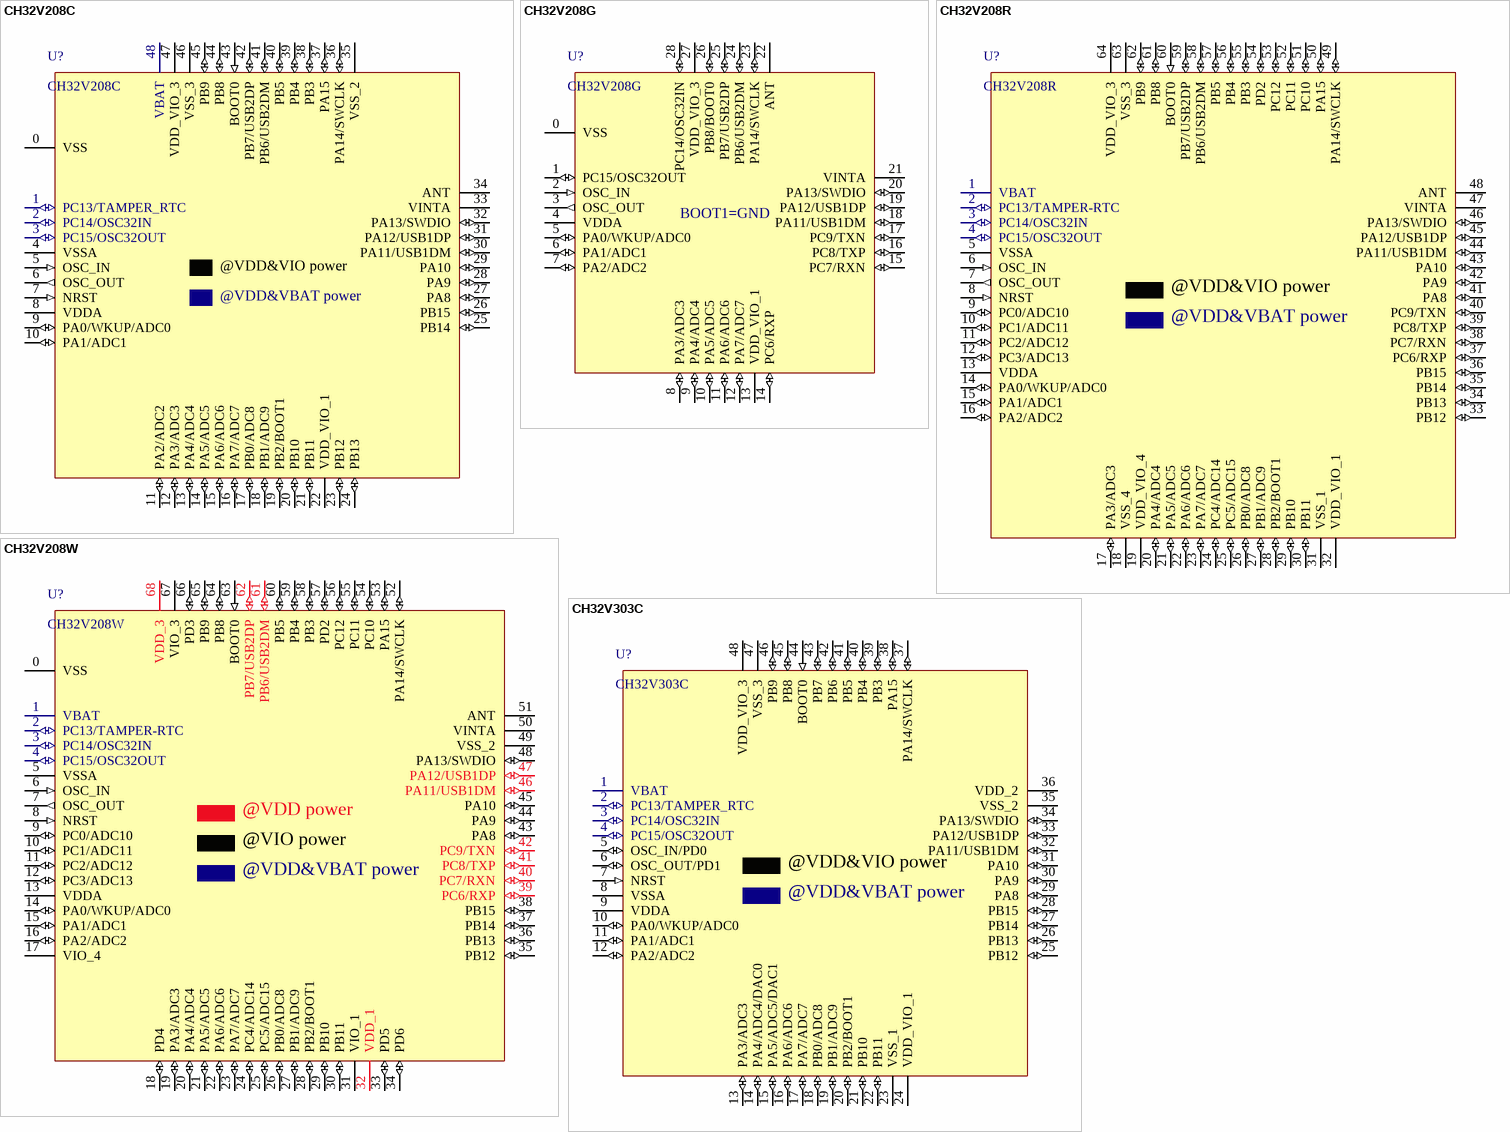
[diagram p13: symbols CH32V208C to CH32V303C]

## CH32V208C
designator U?
RISC-V BLE5.3 MCU, 10M Ethernet, 2*USB, CAN
footprint QFN48_5X5
pins: 0 VSS (power), 1 PC13/TAMPER_RTC (io), 2 PC14/OSC32IN (io), 3 PC15/OSC32OUT (io), 4 VSSA (power), 5 OSC_IN (in), 6 OSC_OUT (out), 7 NRST (in), 8 VDDA (power), 9 PA0/WKUP/ADC0 (io), 10 PA1/ADC1 (io), 11 PA2/ADC2 (io), 12 PA3/ADC3 (io), 13 PA4/ADC4 (io), 14 PA5/ADC5 (io), 15 PA6/ADC6 (io), 16 PA7/ADC7 (io), 17 PB0/ADC8 (io), 18 PB1/ADC9 (io), 19 PB2/BOOT1 (io), 20 PB10 (io), 21 PB11 (io), 22 VDD_VIO_1 (power), 23 PB12 (io), 24 PB13 (io), 25 PB14 (io), 26 PB15 (io), 27 PA8 (io), 28 PA9 (io), 29 PA10 (io), 30 PA11/USB1DM (io), 31 PA12/USB1DP (io), 32 PA13/SWDIO (io), 33 VINTA (power), 34 ANT (power), 35 VSS_2 (power), 36 PA14/SWCLK (io), 37 PA15 (io), 38 PB3 (io), 39 PB4 (io), 40 PB5 (io), 41 PB6/USB2DM (io), 42 PB7/USB2DP (io), 43 BOOT0 (in), 44 PB8 (io), 45 PB9 (io), 46 VSS_3 (power), 47 VDD_VIO_3 (power), 48 VBAT (power)
text: @VDD&VIO power; @VDD&VBAT power

## CH32V208G
designator U?
RISC-V BLE5.3 MCU, 10M Ethernet, 2*USB, CAN
footprint QFN28_4X4
pins: 0 VSS (power), 1 PC15/OSC32OUT (io), 2 OSC_IN (in), 3 OSC_OUT (out), 4 VDDA (power), 5 PA0/WKUP/ADC0 (io), 6 PA1/ADC1 (io), 7 PA2/ADC2 (io), 8 PA3/ADC3 (io), 9 PA4/ADC4 (io), 10 PA5/ADC5 (io), 11 PA6/ADC6 (io), 12 PA7/ADC7 (io), 13 VDD_VIO_1 (power), 14 PC6/RXP (io), 15 PC7/RXN (io), 16 PC8/TXP (io), 17 PC9/TXN (io), 18 PA11/USB1DM (io), 19 PA12/USB1DP (io), 20 PA13/SWDIO (io), 21 VINTA (power), 22 ANT (power), 23 PA14/SWCLK (io), 24 PB6/USB2DM (io), 25 PB7/USB2DP (io), 26 PB8/BOOT0 (io), 27 VDD_VIO_3 (power), 28 PC14/OSC32IN (io)
text: BOOT1=GND

## CH32V208R
designator U?
RISC-V BLE5.3 MCU, 10M Ethernet, 2*USB, CAN
footprint LQFP64M_10X10
pins: 1 VBAT (power), 2 PC13/TAMPER-RTC (io), 3 PC14/OSC32IN (io), 4 PC15/OSC32OUT (io), 5 VSSA (power), 6 OSC_IN (in), 7 OSC_OUT (out), 8 NRST (in), 9 PC0/ADC10 (io), 10 PC1/ADC11 (io), 11 PC2/ADC12 (io), 12 PC3/ADC13 (io), 13 VDDA (power), 14 PA0/WKUP/ADC0 (io), 15 PA1/ADC1 (io), 16 PA2/ADC2 (io), 17 PA3/ADC3 (io), 18 VSS_4 (power), 19 VDD_VIO_4 (power), 20 PA4/ADC4 (io), 21 PA5/ADC5 (io), 22 PA6/ADC6 (io), 23 PA7/ADC7 (io), 24 PC4/ADC14 (io), 25 PC5/ADC15 (io), 26 PB0/ADC8 (io), 27 PB1/ADC9 (io), 28 PB2/BOOT1 (io), 29 PB10 (io), 30 PB11 (io), 31 VSS_1 (power), 32 VDD_VIO_1 (power), 33 PB12 (io), 34 PB13 (io), 35 PB14 (io), 36 PB15 (io), 37 PC6/RXP (io), 38 PC7/RXN (io), 39 PC8/TXP (io), 40 PC9/TXN (io), 41 PA8 (io), 42 PA9 (io), 43 PA10 (io), 44 PA11/USB1DM (io), 45 PA12/USB1DP (io), 46 PA13/SWDIO (io), 47 VINTA (power), 48 ANT (power), 49 PA14/SWCLK (io), 50 PA15 (io), 51 PC10 (io), 52 PC11 (io), 53 PC12 (io), 54 PD2 (io), 55 PB3 (io), 56 PB4 (io), 57 PB5 (io), 58 PB6/USB2DM (io), 59 PB7/USB2DP (io), 60 BOOT0 (in), 61 PB8 (io), 62 PB9 (io), 63 VSS_3 (power), 64 VDD_VIO_3 (power)
text: @VDD&VIO power; @VDD&VBAT power

## CH32V208W
designator U?
RISC-V BLE5.3 MCU, 10M Ethernet, 2*USB, CAN
footprint QFN68_8X8
pins: 0 VSS (power), 1 VBAT (power), 2 PC13/TAMPER-RTC (io), 3 PC14/OSC32IN (io), 4 PC15/OSC32OUT (io), 5 VSSA (power), 6 OSC_IN (in), 7 OSC_OUT (out), 8 NRST (in), 9 PC0/ADC10 (io), 10 PC1/ADC11 (io), 11 PC2/ADC12 (io), 12 PC3/ADC13 (io), 13 VDDA (power), 14 PA0/WKUP/ADC0 (io), 15 PA1/ADC1 (io), 16 PA2/ADC2 (io), 17 VIO_4 (power), 18 PD4 (io), 19 PA3/ADC3 (io), 20 PA4/ADC4 (io), 21 PA5/ADC5 (io), 22 PA6/ADC6 (io), 23 PA7/ADC7 (io), 24 PC4/ADC14 (io), 25 PC5/ADC15 (io), 26 PB0/ADC8 (io), 27 PB1/ADC9 (io), 28 PB2/BOOT1 (io), 29 PB10 (io), 30 PB11 (io), 31 VIO_1 (power), 32 VDD_1 (power), 33 PD5 (io), 34 PD6 (io), 35 PB12 (io), 36 PB13 (io), 37 PB14 (io), 38 PB15 (io), 39 PC6/RXP (io), 40 PC7/RXN (io), 41 PC8/TXP (io), 42 PC9/TXN (io), 43 PA8 (io), 44 PA9 (io), 45 PA10 (io), 46 PA11/USB1DM (io), 47 PA12/USB1DP (io), 48 PA13/SWDIO (io), 49 VSS_2 (power), 50 VINTA (power), 51 ANT (power), 52 PA14/SWCLK (io), 53 PA15 (io), 54 PC10 (io), 55 PC11 (io), 56 PC12 (io), 57 PD2 (io), 58 PB3 (io), 59 PB4 (io), 60 PB5 (io), 61 PB6/USB2DM (io), 62 PB7/USB2DP (io), 63 BOOT0 (in), 64 PB8 (io), 65 PB9 (io), 66 PD3 (io), 67 VIO_3 (power), 68 VDD_3 (power)
text: @VDD power; @VIO power; @VDD&VBAT power

## CH32V303C
designator U?
RISC-V FPU HD-MCU, 144MHz, 8*UART, 10*Timer, 4*OPA
footprint LQFP48
pins: 1 VBAT (power), 2 PC13/TAMPER_RTC (io), 3 PC14/OSC32IN (io), 4 PC15/OSC32OUT (io), 5 OSC_IN/PD0 (io), 6 OSC_OUT/PD1 (io), 7 NRST (in), 8 VSSA (power), 9 VDDA (power), 10 PA0/WKUP/ADC0 (io), 11 PA1/ADC1 (io), 12 PA2/ADC2 (io), 13 PA3/ADC3 (io), 14 PA4/ADC4/DAC0 (io), 15 PA5/ADC5/DAC1 (io), 16 PA6/ADC6 (io), 17 PA7/ADC7 (io), 18 PB0/ADC8 (io), 19 PB1/ADC9 (io), 20 PB2/BOOT1 (io), 21 PB10 (io), 22 PB11 (io), 23 VSS_1 (power), 24 VDD_VIO_1 (power), 25 PB12 (io), 26 PB13 (io), 27 PB14 (io), 28 PB15 (io), 29 PA8 (io), 30 PA9 (io), 31 PA10 (io), 32 PA11/USB1DM (io), 33 PA12/USB1DP (io), 34 PA13/SWDIO (io), 35 VSS_2 (power), 36 VDD_2 (power), 37 PA14/SWCLK (io), 38 PA15 (io), 39 PB3 (io), 40 PB4 (io), 41 PB5 (io), 42 PB6 (io), 43 PB7 (io), 44 BOOT0 (in), 45 PB8 (io), 46 PB9 (io), 47 VSS_3 (power), 48 VDD_VIO_3 (power)
text: @VDD&VIO power; @VDD&VBAT power

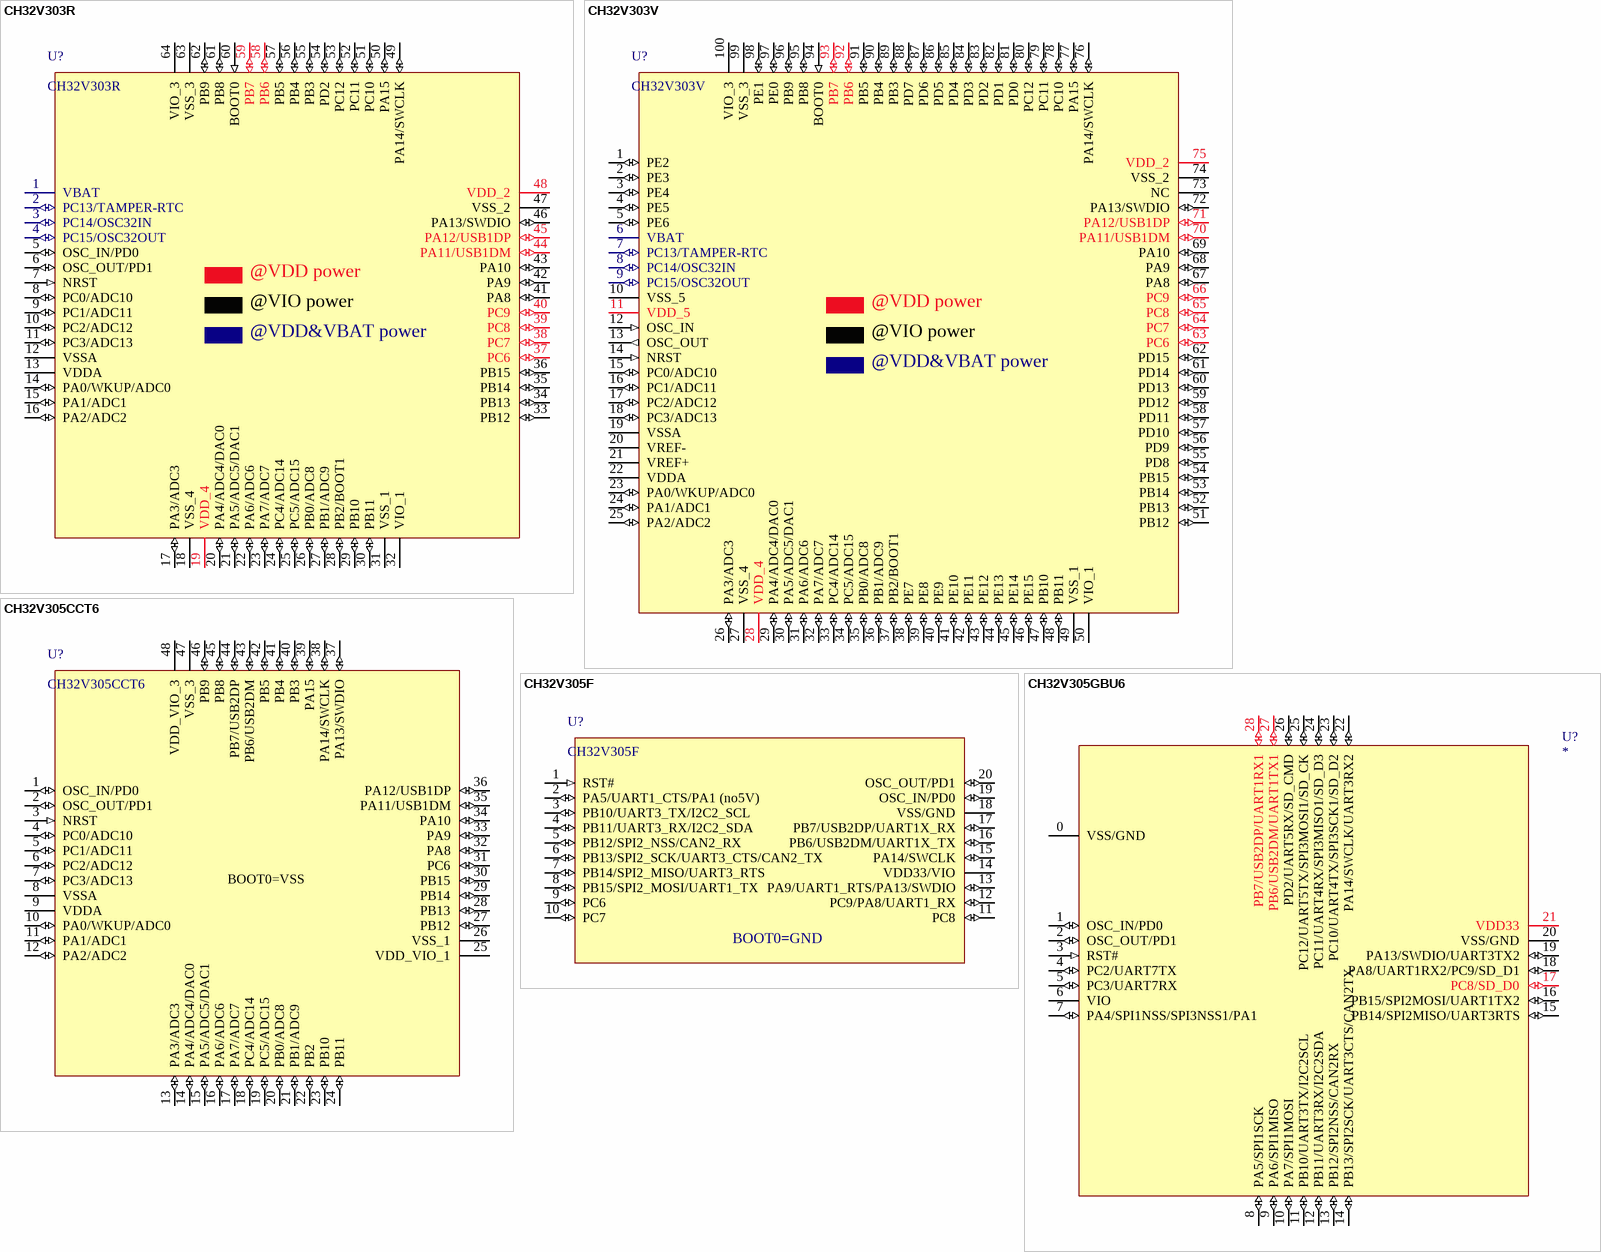
[diagram p14: symbols CH32V303R to CH32V305GBU6]

## CH32V303R
designator U?
RISC-V FPU HD-MCU, 144MHz, 8*UART, 10*Timer, 4*OPA
footprint LQFP64M_10X10
pins: 1 VBAT (power), 2 PC13/TAMPER-RTC (io), 3 PC14/OSC32IN (io), 4 PC15/OSC32OUT (io), 5 OSC_IN/PD0 (io), 6 OSC_OUT/PD1 (io), 7 NRST (in), 8 PC0/ADC10 (io), 9 PC1/ADC11 (io), 10 PC2/ADC12 (io), 11 PC3/ADC13 (io), 12 VSSA (power), 13 VDDA (power), 14 PA0/WKUP/ADC0 (io), 15 PA1/ADC1 (io), 16 PA2/ADC2 (io), 17 PA3/ADC3 (io), 18 VSS_4 (power), 19 VDD_4 (power), 20 PA4/ADC4/DAC0 (io), 21 PA5/ADC5/DAC1 (io), 22 PA6/ADC6 (io), 23 PA7/ADC7 (io), 24 PC4/ADC14 (io), 25 PC5/ADC15 (io), 26 PB0/ADC8 (io), 27 PB1/ADC9 (io), 28 PB2/BOOT1 (io), 29 PB10 (io), 30 PB11 (io), 31 VSS_1 (power), 32 VIO_1 (power), 33 PB12 (io), 34 PB13 (io), 35 PB14 (io), 36 PB15 (io), 37 PC6 (io), 38 PC7 (io), 39 PC8 (io), 40 PC9 (io), 41 PA8 (io), 42 PA9 (io), 43 PA10 (io), 44 PA11/USB1DM (io), 45 PA12/USB1DP (io), 46 PA13/SWDIO (io), 47 VSS_2 (power), 48 VDD_2 (power), 49 PA14/SWCLK (io), 50 PA15 (io), 51 PC10 (io), 52 PC11 (io), 53 PC12 (io), 54 PD2 (io), 55 PB3 (io), 56 PB4 (io), 57 PB5 (io), 58 PB6 (io), 59 PB7 (io), 60 BOOT0 (in), 61 PB8 (io), 62 PB9 (io), 63 VSS_3 (power), 64 VIO_3 (power)
text: @VDD power; @VIO power; @VDD&VBAT power

## CH32V303V
designator U?
RISC-V FPU HD-MCU, 144MHz, 8*UART, 10*Timer, 4*OPA
footprint LQFP100
pins: 1 PE2 (io), 2 PE3 (io), 3 PE4 (io), 4 PE5 (io), 5 PE6 (io), 6 VBAT (power), 7 PC13/TAMPER-RTC (io), 8 PC14/OSC32IN (io), 9 PC15/OSC32OUT (io), 10 VSS_5 (power), 11 VDD_5 (power), 12 OSC_IN (in), 13 OSC_OUT (out), 14 NRST (in), 15 PC0/ADC10 (io), 16 PC1/ADC11 (io), 17 PC2/ADC12 (io), 18 PC3/ADC13 (io), 19 VSSA (power), 20 VREF- (power), 21 VREF+ (power), 22 VDDA (power), 23 PA0/WKUP/ADC0 (io), 24 PA1/ADC1 (io), 25 PA2/ADC2 (io), 26 PA3/ADC3 (io), 27 VSS_4 (power), 28 VDD_4 (power), 29 PA4/ADC4/DAC0 (io), 30 PA5/ADC5/DAC1 (io), 31 PA6/ADC6 (io), 32 PA7/ADC7 (io), 33 PC4/ADC14 (io), 34 PC5/ADC15 (io), 35 PB0/ADC8 (io), 36 PB1/ADC9 (io), 37 PB2/BOOT1 (io), 38 PE7 (io), 39 PE8 (io), 40 PE9 (io), 41 PE10 (io), 42 PE11 (io), 43 PE12 (io), 44 PE13 (io), 45 PE14 (io), 46 PE15 (io), 47 PB10 (io), 48 PB11 (io), 49 VSS_1 (power), 50 VIO_1 (power), 51 PB12 (io), 52 PB13 (io), 53 PB14 (io), 54 PB15 (io), 55 PD8 (io), 56 PD9 (io), 57 PD10 (io), 58 PD11 (io), 59 PD12 (io), 60 PD13 (io), 61 PD14 (io), 62 PD15 (io), 63 PC6 (io), 64 PC7 (io), 65 PC8 (io), 66 PC9 (io), 67 PA8 (io), 68 PA9 (io), 69 PA10 (io), 70 PA11/USB1DM (io), 71 PA12/USB1DP (io), 72 PA13/SWDIO (io), 73 NC (hiz), 74 VSS_2 (power), 75 VDD_2 (power), 76 PA14/SWCLK (io), 77 PA15 (io), 78 PC10 (io), 79 PC11 (io), 80 PC12 (io), 81 PD0 (io), 82 PD1 (io), 83 PD2 (io), 84 PD3 (io), 85 PD4 (io), 86 PD5 (io), 87 PD6 (io), 88 PD7 (io), 89 PB3 (io), 90 PB4 (io), 91 PB5 (io), 92 PB6 (io), 93 PB7 (io), 94 BOOT0 (in), 95 PB8 (io), 96 PB9 (io), 97 PE0 (io), 98 PE1 (io), 99 VSS_3 (power), 100 VIO_3 (power)
text: @VDD power; @VIO power; @VDD&VBAT power

## CH32V305CCT6
designator U?
RISC-V MCU, 144MHz, USB_480M, 2*CAN, 3*SPI, 4*OPA
footprint LQFP48
pins: 1 OSC_IN/PD0 (io), 2 OSC_OUT/PD1 (io), 3 NRST (in), 4 PC0/ADC10 (io), 5 PC1/ADC11 (io), 6 PC2/ADC12 (io), 7 PC3/ADC13 (io), 8 VSSA (power), 9 VDDA (power), 10 PA0/WKUP/ADC0 (io), 11 PA1/ADC1 (io), 12 PA2/ADC2 (io), 13 PA3/ADC3 (io), 14 PA4/ADC4/DAC0 (io), 15 PA5/ADC5/DAC1 (io), 16 PA6/ADC6 (io), 17 PA7/ADC7 (io), 18 PC4/ADC14 (io), 19 PC5/ADC15 (io), 20 PB0/ADC8 (io), 21 PB1/ADC9 (io), 22 PB2 (io), 23 PB10 (io), 24 PB11 (io), 25 VDD_VIO_1 (power), 26 VSS_1 (power), 27 PB12 (io), 28 PB13 (io), 29 PB14 (io), 30 PB15 (io), 31 PC6 (io), 32 PA8 (io), 33 PA9 (io), 34 PA10 (io), 35 PA11/USB1DM (io), 36 PA12/USB1DP (io), 37 PA13/SWDIO (io), 38 PA14/SWCLK (io), 39 PA15 (io), 40 PB3 (io), 41 PB4 (io), 42 PB5 (io), 43 PB6/USB2DM (io), 44 PB7/USB2DP (io), 45 PB8 (io), 46 PB9 (io), 47 VSS_3 (power), 48 VDD_VIO_3 (power)
text: BOOT0=VSS

## CH32V305F
designator U?
RISC-V FPU HD-MCU, 144MHz, USB_480M, CAN, UART*2, SPI
footprint TSSOP20
pins: 1 RST# (in), 2 PA5/UART1_CTS/PA1 (no5V) (io), 3 PB10/UART3_TX/I2C2_SCL (io), 4 PB11/UART3_RX/I2C2_SDA (io), 5 PB12/SPI2_NSS/CAN2_RX (io), 6 PB13/SPI2_SCK/UART3_CTS/CAN2_TX (io), 7 PB14/SPI2_MISO/UART3_RTS (io), 8 PB15/SPI2_MOSI/UART1_TX (io), 9 PC6 (io), 10 PC7 (io), 11 PC8 (io), 12 PC9/PA8/UART1_RX (io), 13 PA9/UART1_RTS/PA13/SWDIO (io), 14 VDD33/VIO (power), 15 PA14/SWCLK (io), 16 PB6/USB2DM/UART1X_TX (io), 17 PB7/USB2DP/UART1X_RX (io), 18 VSS/GND (power), 19 OSC_IN/PD0 (io), 20 OSC_OUT/PD1 (io)
text: BOOT0=GND

## CH32V305GBU6
designator U?
RISC-V MCU, 144MHz, USB_480M, CAN, UART*5, SPI*3, SDIO
footprint QFN28_4X4
pins: 0 VSS/GND (power), 1 OSC_IN/PD0 (io), 2 OSC_OUT/PD1 (io), 3 RST# (in), 4 PC2/UART7TX (io), 5 PC3/UART7RX (io), 6 VIO (power), 7 PA4/SPI1NSS/SPI3NSS1/PA1 (io), 8 PA5/SPI1SCK (io), 9 PA6/SPI1MISO (io), 10 PA7/SPI1MOSI (io), 11 PB10/UART3TX/I2C2SCL (io), 12 PB11/UART3RX/I2C2SDA (io), 13 PB12/SPI2NSS/CAN2RX (io), 14 PB13/SPI2SCK/UART3CTS/CAN2TX (io), 15 PB14/SPI2MISO/UART3RTS (io), 16 PB15/SPI2MOSI/UART1TX2 (io), 17 PC8/SD_D0 (io), 18 PA8/UART1RX2/PC9/SD_D1 (io), 19 PA13/SWDIO/UART3TX2 (io), 20 VSS/GND (power), 21 VDD33 (power), 22 PA14/SWCLK/UART3RX2 (io), 23 PC10/UART4TX/SPI3SCK1/SD_D2 (io), 24 PC11/UART4RX/SPI3MISO1/SD_D3 (io), 25 PC12/UART5TX/SPI3MOSI1/SD_CK (io), 26 PD2/UART5RX/SD_CMD (io), 27 PB6/USB2DM/UART1TX1 (io), 28 PB7/USB2DP/UART1RX1 (io)

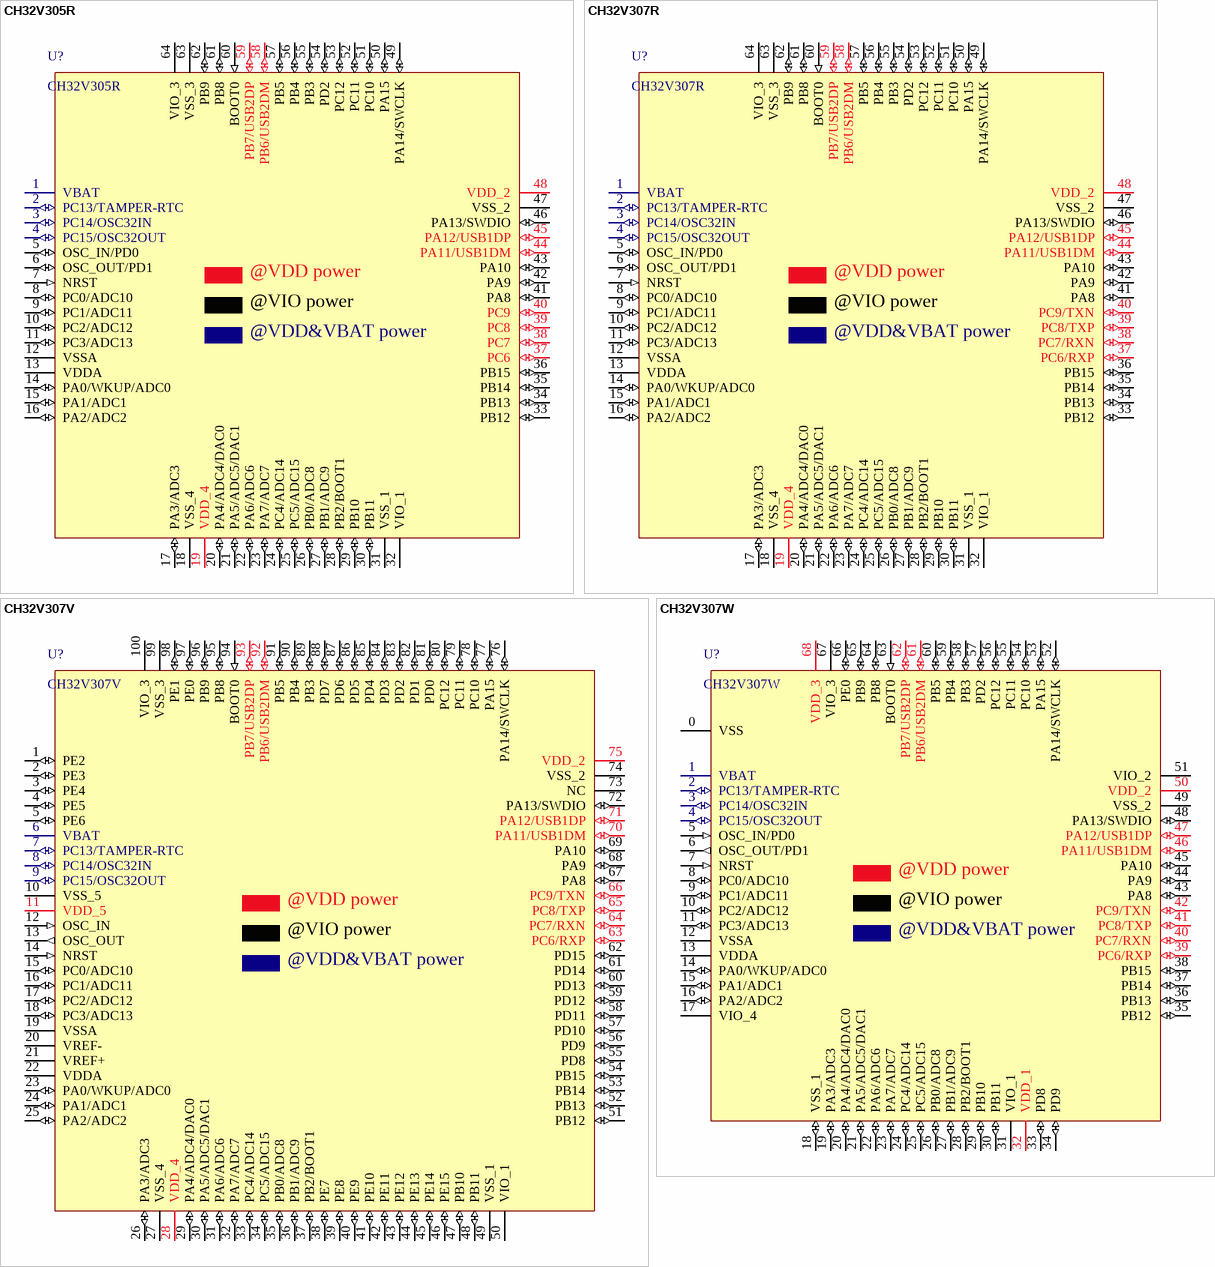
[diagram p15: symbols CH32V305R to CH32V307W]

## CH32V305R
designator U?
RISC-V FPU HD-MCU, 144MHz, USB_480M, USB OTG, 2*CAN, 4*OPA
footprint LQFP64M_10X10
pins: 1 VBAT (power), 2 PC13/TAMPER-RTC (io), 3 PC14/OSC32IN (io), 4 PC15/OSC32OUT (io), 5 OSC_IN/PD0 (io), 6 OSC_OUT/PD1 (io), 7 NRST (in), 8 PC0/ADC10 (io), 9 PC1/ADC11 (io), 10 PC2/ADC12 (io), 11 PC3/ADC13 (io), 12 VSSA (power), 13 VDDA (power), 14 PA0/WKUP/ADC0 (io), 15 PA1/ADC1 (io), 16 PA2/ADC2 (io), 17 PA3/ADC3 (io), 18 VSS_4 (power), 19 VDD_4 (power), 20 PA4/ADC4/DAC0 (io), 21 PA5/ADC5/DAC1 (io), 22 PA6/ADC6 (io), 23 PA7/ADC7 (io), 24 PC4/ADC14 (io), 25 PC5/ADC15 (io), 26 PB0/ADC8 (io), 27 PB1/ADC9 (io), 28 PB2/BOOT1 (io), 29 PB10 (io), 30 PB11 (io), 31 VSS_1 (power), 32 VIO_1 (power), 33 PB12 (io), 34 PB13 (io), 35 PB14 (io), 36 PB15 (io), 37 PC6 (io), 38 PC7 (io), 39 PC8 (io), 40 PC9 (io), 41 PA8 (io), 42 PA9 (io), 43 PA10 (io), 44 PA11/USB1DM (io), 45 PA12/USB1DP (io), 46 PA13/SWDIO (io), 47 VSS_2 (power), 48 VDD_2 (power), 49 PA14/SWCLK (io), 50 PA15 (io), 51 PC10 (io), 52 PC11 (io), 53 PC12 (io), 54 PD2 (io), 55 PB3 (io), 56 PB4 (io), 57 PB5 (io), 58 PB6/USB2DM (io), 59 PB7/USB2DP (io), 60 BOOT0 (in), 61 PB8 (io), 62 PB9 (io), 63 VSS_3 (power), 64 VIO_3 (power)
text: @VDD power; @VIO power; @VDD&VBAT power

## CH32V307R
designator U?
RISC-V FPU HD-MCU, 144MHz, USB_480M, USB OTG, 1000M Ethernet MAC, 2*CAN
footprint LQFP64M_10X10
pins: 1 VBAT (power), 2 PC13/TAMPER-RTC (io), 3 PC14/OSC32IN (io), 4 PC15/OSC32OUT (io), 5 OSC_IN/PD0 (io), 6 OSC_OUT/PD1 (io), 7 NRST (in), 8 PC0/ADC10 (io), 9 PC1/ADC11 (io), 10 PC2/ADC12 (io), 11 PC3/ADC13 (io), 12 VSSA (power), 13 VDDA (power), 14 PA0/WKUP/ADC0 (io), 15 PA1/ADC1 (io), 16 PA2/ADC2 (io), 17 PA3/ADC3 (io), 18 VSS_4 (power), 19 VDD_4 (power), 20 PA4/ADC4/DAC0 (io), 21 PA5/ADC5/DAC1 (io), 22 PA6/ADC6 (io), 23 PA7/ADC7 (io), 24 PC4/ADC14 (io), 25 PC5/ADC15 (io), 26 PB0/ADC8 (io), 27 PB1/ADC9 (io), 28 PB2/BOOT1 (io), 29 PB10 (io), 30 PB11 (io), 31 VSS_1 (power), 32 VIO_1 (power), 33 PB12 (io), 34 PB13 (io), 35 PB14 (io), 36 PB15 (io), 37 PC6/RXP (io), 38 PC7/RXN (io), 39 PC8/TXP (io), 40 PC9/TXN (io), 41 PA8 (io), 42 PA9 (io), 43 PA10 (io), 44 PA11/USB1DM (io), 45 PA12/USB1DP (io), 46 PA13/SWDIO (io), 47 VSS_2 (power), 48 VDD_2 (power), 49 PA14/SWCLK (io), 50 PA15 (io), 51 PC10 (io), 52 PC11 (io), 53 PC12 (io), 54 PD2 (io), 55 PB3 (io), 56 PB4 (io), 57 PB5 (io), 58 PB6/USB2DM (io), 59 PB7/USB2DP (io), 60 BOOT0 (in), 61 PB8 (io), 62 PB9 (io), 63 VSS_3 (power), 64 VIO_3 (power)
text: @VDD power; @VIO power; @VDD&VBAT power

## CH32V307V
designator U?
RISC-V FPU HD-MCU, 144MHz, USB_480M, USB OTG, 1000M Ethernet MAC, 2*CAN, FSMC+DVP
footprint LQFP100
pins: 1 PE2 (io), 2 PE3 (io), 3 PE4 (io), 4 PE5 (io), 5 PE6 (io), 6 VBAT (power), 7 PC13/TAMPER-RTC (io), 8 PC14/OSC32IN (io), 9 PC15/OSC32OUT (io), 10 VSS_5 (power), 11 VDD_5 (power), 12 OSC_IN (in), 13 OSC_OUT (out), 14 NRST (in), 15 PC0/ADC10 (io), 16 PC1/ADC11 (io), 17 PC2/ADC12 (io), 18 PC3/ADC13 (io), 19 VSSA (power), 20 VREF- (power), 21 VREF+ (power), 22 VDDA (power), 23 PA0/WKUP/ADC0 (io), 24 PA1/ADC1 (io), 25 PA2/ADC2 (io), 26 PA3/ADC3 (io), 27 VSS_4 (power), 28 VDD_4 (power), 29 PA4/ADC4/DAC0 (io), 30 PA5/ADC5/DAC1 (io), 31 PA6/ADC6 (io), 32 PA7/ADC7 (io), 33 PC4/ADC14 (io), 34 PC5/ADC15 (io), 35 PB0/ADC8 (io), 36 PB1/ADC9 (io), 37 PB2/BOOT1 (io), 38 PE7 (io), 39 PE8 (io), 40 PE9 (io), 41 PE10 (io), 42 PE11 (io), 43 PE12 (io), 44 PE13 (io), 45 PE14 (io), 46 PE15 (io), 47 PB10 (io), 48 PB11 (io), 49 VSS_1 (power), 50 VIO_1 (power), 51 PB12 (io), 52 PB13 (io), 53 PB14 (io), 54 PB15 (io), 55 PD8 (io), 56 PD9 (io), 57 PD10 (io), 58 PD11 (io), 59 PD12 (io), 60 PD13 (io), 61 PD14 (io), 62 PD15 (io), 63 PC6/RXP (io), 64 PC7/RXN (io), 65 PC8/TXP (io), 66 PC9/TXN (io), 67 PA8 (io), 68 PA9 (io), 69 PA10 (io), 70 PA11/USB1DM (io), 71 PA12/USB1DP (io), 72 PA13/SWDIO (io), 73 NC (hiz), 74 VSS_2 (power), 75 VDD_2 (power), 76 PA14/SWCLK (io), 77 PA15 (io), 78 PC10 (io), 79 PC11 (io), 80 PC12 (io), 81 PD0 (io), 82 PD1 (io), 83 PD2 (io), 84 PD3 (io), 85 PD4 (io), 86 PD5 (io), 87 PD6 (io), 88 PD7 (io), 89 PB3 (io), 90 PB4 (io), 91 PB5 (io), 92 PB6/USB2DM (io), 93 PB7/USB2DP (io), 94 BOOT0 (in), 95 PB8 (io), 96 PB9 (io), 97 PE0 (io), 98 PE1 (io), 99 VSS_3 (power), 100 VIO_3 (power)
text: @VDD power; @VIO power; @VDD&VBAT power

## CH32V307W
designator U?
RISC-V FPU HD-MCU, 144MHz, USB_480M, USB OTG, 1000M Ethernet MAC, 2*CAN
footprint QFN68_8X8
pins: 0 VSS (power), 1 VBAT (power), 2 PC13/TAMPER-RTC (io), 3 PC14/OSC32IN (io), 4 PC15/OSC32OUT (io), 5 OSC_IN/PD0 (in), 6 OSC_OUT/PD1 (out), 7 NRST (in), 8 PC0/ADC10 (io), 9 PC1/ADC11 (io), 10 PC2/ADC12 (io), 11 PC3/ADC13 (io), 12 VSSA (power), 13 VDDA (power), 14 PA0/WKUP/ADC0 (io), 15 PA1/ADC1 (io), 16 PA2/ADC2 (io), 17 VIO_4 (power), 18 VSS_1 (io), 19 PA3/ADC3 (io), 20 PA4/ADC4/DAC0 (io), 21 PA5/ADC5/DAC1 (io), 22 PA6/ADC6 (io), 23 PA7/ADC7 (io), 24 PC4/ADC14 (io), 25 PC5/ADC15 (io), 26 PB0/ADC8 (io), 27 PB1/ADC9 (io), 28 PB2/BOOT1 (io), 29 PB10 (io), 30 PB11 (io), 31 VIO_1 (power), 32 VDD_1 (power), 33 PD8 (io), 34 PD9 (io), 35 PB12 (io), 36 PB13 (io), 37 PB14 (io), 38 PB15 (io), 39 PC6/RXP (io), 40 PC7/RXN (io), 41 PC8/TXP (io), 42 PC9/TXN (io), 43 PA8 (io), 44 PA9 (io), 45 PA10 (io), 46 PA11/USB1DM (io), 47 PA12/USB1DP (io), 48 PA13/SWDIO (io), 49 VSS_2 (power), 50 VDD_2 (power), 51 VIO_2 (power), 52 PA14/SWCLK (io), 53 PA15 (io), 54 PC10 (io), 55 PC11 (io), 56 PC12 (io), 57 PD2 (io), 58 PB3 (io), 59 PB4 (io), 60 PB5 (io), 61 PB6/USB2DM (io), 62 PB7/USB2DP (io), 63 BOOT0 (in), 64 PB8 (io), 65 PB9 (io), 66 PE0 (io), 67 VIO_3 (power), 68 VDD_3 (power)
text: @VDD power; @VIO power; @VDD&VBAT power

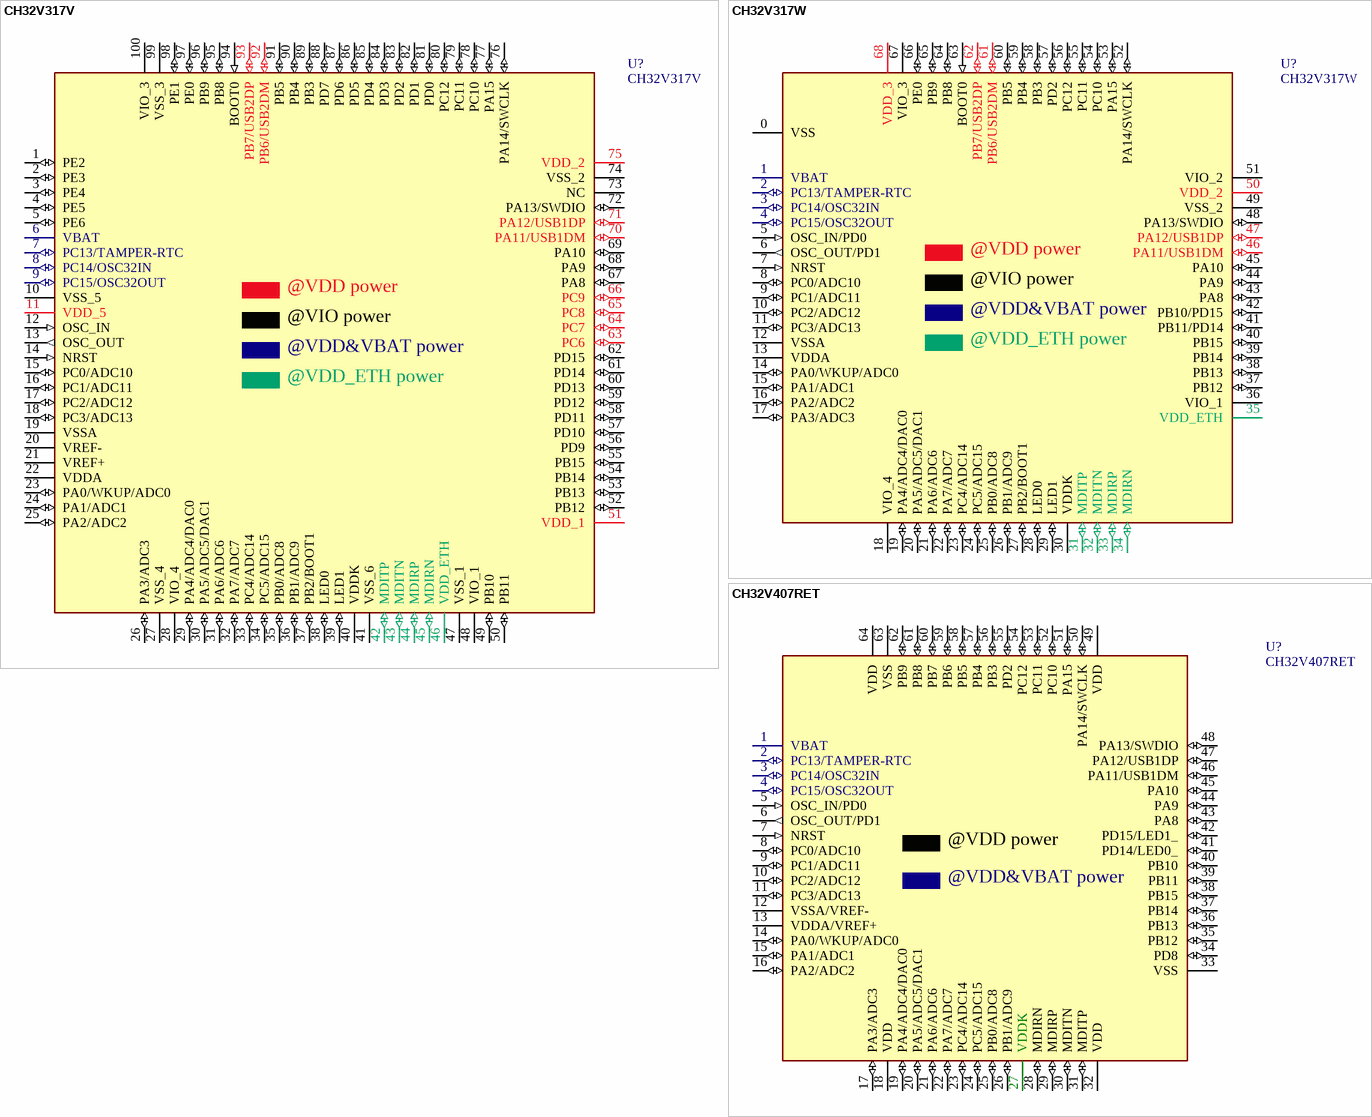
[diagram p16: symbols CH32V317V to CH32V407RET]

## CH32V317V
designator U?
RISC-V FPU HD-MCU, 144MHz, USB_480M, USB OTG, 100M Ethernet & Phy, 2*CAN, DVP
footprint LQFP100
pins: 1 PE2 (io), 2 PE3 (io), 3 PE4 (io), 4 PE5 (io), 5 PE6 (io), 6 VBAT (power), 7 PC13/TAMPER-RTC (io), 8 PC14/OSC32IN (io), 9 PC15/OSC32OUT (io), 10 VSS_5 (power), 11 VDD_5 (power), 12 OSC_IN (in), 13 OSC_OUT (out), 14 NRST (in), 15 PC0/ADC10 (io), 16 PC1/ADC11 (io), 17 PC2/ADC12 (io), 18 PC3/ADC13 (io), 19 VSSA (power), 20 VREF- (power), 21 VREF+ (power), 22 VDDA (power), 23 PA0/WKUP/ADC0 (io), 24 PA1/ADC1 (io), 25 PA2/ADC2 (io), 26 PA3/ADC3 (io), 27 VSS_4 (power), 28 VIO_4 (power), 29 PA4/ADC4/DAC0 (io), 30 PA5/ADC5/DAC1 (io), 31 PA6/ADC6 (io), 32 PA7/ADC7 (io), 33 PC4/ADC14 (io), 34 PC5/ADC15 (io), 35 PB0/ADC8 (io), 36 PB1/ADC9 (io), 37 PB2/BOOT1 (io), 38 LED0 (io), 39 LED1 (io), 40 VDDK (power), 41 VSS_6 (power), 42 MDITP (io), 43 MDITN (io), 44 MDIRP (io), 45 MDIRN (io), 46 VDD_ETH (power), 47 VSS_1 (power), 48 VIO_1 (power), 49 PB10 (io), 50 PB11 (io), 51 VDD_1 (power), 52 PB12 (io), 53 PB13 (io), 54 PB14 (io), 55 PB15 (io), 56 PD9 (io), 57 PD10 (io), 58 PD11 (io), 59 PD12 (io), 60 PD13 (io), 61 PD14 (io), 62 PD15 (io), 63 PC6 (io), 64 PC7 (io), 65 PC8 (io), 66 PC9 (io), 67 PA8 (io), 68 PA9 (io), 69 PA10 (io), 70 PA11/USB1DM (io), 71 PA12/USB1DP (io), 72 PA13/SWDIO (io), 73 NC (hiz), 74 VSS_2 (power), 75 VDD_2 (power), 76 PA14/SWCLK (io), 77 PA15 (io), 78 PC10 (io), 79 PC11 (io), 80 PC12 (io), 81 PD0 (io), 82 PD1 (io), 83 PD2 (io), 84 PD3 (io), 85 PD4 (io), 86 PD5 (io), 87 PD6 (io), 88 PD7 (io), 89 PB3 (io), 90 PB4 (io), 91 PB5 (io), 92 PB6/USB2DM (io), 93 PB7/USB2DP (io), 94 BOOT0 (in), 95 PB8 (io), 96 PB9 (io), 97 PE0 (io), 98 PE1 (io), 99 VSS_3 (power), 100 VIO_3 (power)
text: @VDD power; @VIO power; @VDD&VBAT power; @VDD_ETH power

## CH32V317W
designator U?
RISC-V FPU HD-MCU, 144MHz, USB_480M, USB OTG, 100M Ethernet & Phy, 2*CAN
footprint QFN68_8X8
pins: 0 VSS (power), 1 VBAT (power), 2 PC13/TAMPER-RTC (io), 3 PC14/OSC32IN (io), 4 PC15/OSC32OUT (io), 5 OSC_IN/PD0 (in), 6 OSC_OUT/PD1 (out), 7 NRST (in), 8 PC0/ADC10 (io), 9 PC1/ADC11 (io), 10 PC2/ADC12 (io), 11 PC3/ADC13 (io), 12 VSSA (power), 13 VDDA (power), 14 PA0/WKUP/ADC0 (io), 15 PA1/ADC1 (io), 16 PA2/ADC2 (io), 17 PA3/ADC3 (io), 18 VIO_4 (power), 19 PA4/ADC4/DAC0 (io), 20 PA5/ADC5/DAC1 (io), 21 PA6/ADC6 (io), 22 PA7/ADC7 (io), 23 PC4/ADC14 (io), 24 PC5/ADC15 (io), 25 PB0/ADC8 (io), 26 PB1/ADC9 (io), 27 PB2/BOOT1 (io), 28 LED0 (io), 29 LED1 (io), 30 VDDK (power), 31 MDITP (io), 32 MDITN (io), 33 MDIRP (io), 34 MDIRN (io), 35 VDD_ETH (power), 36 VIO_1 (power), 37 PB12 (io), 38 PB13 (io), 39 PB14 (io), 40 PB15 (io), 41 PB11/PD14 (io), 42 PB10/PD15 (io), 43 PA8 (io), 44 PA9 (io), 45 PA10 (io), 46 PA11/USB1DM (io), 47 PA12/USB1DP (io), 48 PA13/SWDIO (io), 49 VSS_2 (power), 50 VDD_2 (power), 51 VIO_2 (power), 52 PA14/SWCLK (io), 53 PA15 (io), 54 PC10 (io), 55 PC11 (io), 56 PC12 (io), 57 PD2 (io), 58 PB3 (io), 59 PB4 (io), 60 PB5 (io), 61 PB6/USB2DM (io), 62 PB7/USB2DP (io), 63 BOOT0 (in), 64 PB8 (io), 65 PB9 (io), 66 PE0 (io), 67 VIO_3 (power), 68 VDD_3 (power)
text: @VDD power; @VIO power; @VDD&VBAT power; @VDD_ETH power

## CH32V407RET
designator U?
RISC-V FPU HD-MCU, 175MHz, USB_480M, 100M Ethernet & Phy, CAN, ADC, DAC
footprint LQFP64_7X7 (Footprint not found)
pins: 1 VBAT (power), 2 PC13/TAMPER-RTC (io), 3 PC14/OSC32IN (io), 4 PC15/OSC32OUT (io), 5 OSC_IN/PD0 (in), 6 OSC_OUT/PD1 (out), 7 NRST (in), 8 PC0/ADC10 (io), 9 PC1/ADC11 (io), 10 PC2/ADC12 (io), 11 PC3/ADC13 (io), 12 VSSA/VREF- (power), 13 VDDA/VREF+ (power), 14 PA0/WKUP/ADC0 (io), 15 PA1/ADC1 (io), 16 PA2/ADC2 (io), 17 PA3/ADC3 (io), 18 VDD (power), 19 PA4/ADC4/DAC0 (io), 20 PA5/ADC5/DAC1 (io), 21 PA6/ADC6 (io), 22 PA7/ADC7 (io), 23 PC4/ADC14 (io), 24 PC5/ADC15 (io), 25 PB0/ADC8 (io), 26 PB1/ADC9 (io), 27 VDDK (power), 28 MDIRN (io), 29 MDIRP (io), 30 MDITN (io), 31 MDITP (io), 32 VDD (power), 33 VSS (power), 34 PD8 (io), 35 PB12 (io), 36 PB13 (io), 37 PB14 (io), 38 PB15 (io), 39 PB11 (io), 40 PB10 (io), 41 PD14/LED0_ (io), 42 PD15/LED1_ (io), 43 PA8 (io), 44 PA9 (io), 45 PA10 (io), 46 PA11/USB1DM (io), 47 PA12/USB1DP (io), 48 PA13/SWDIO (io), 49 VDD (power), 50 PA14/SWCLK (io), 51 PA15 (io), 52 PC10 (io), 53 PC11 (io), 54 PC12 (io), 55 PD2 (io), 56 PB3 (io), 57 PB4 (io), 58 PB5 (io), 59 PB6 (io), 60 PB7 (io), 61 PB8 (io), 62 PB9 (io), 63 VSS (power), 64 VDD (power)
text: @VDD power; @VDD&VBAT power

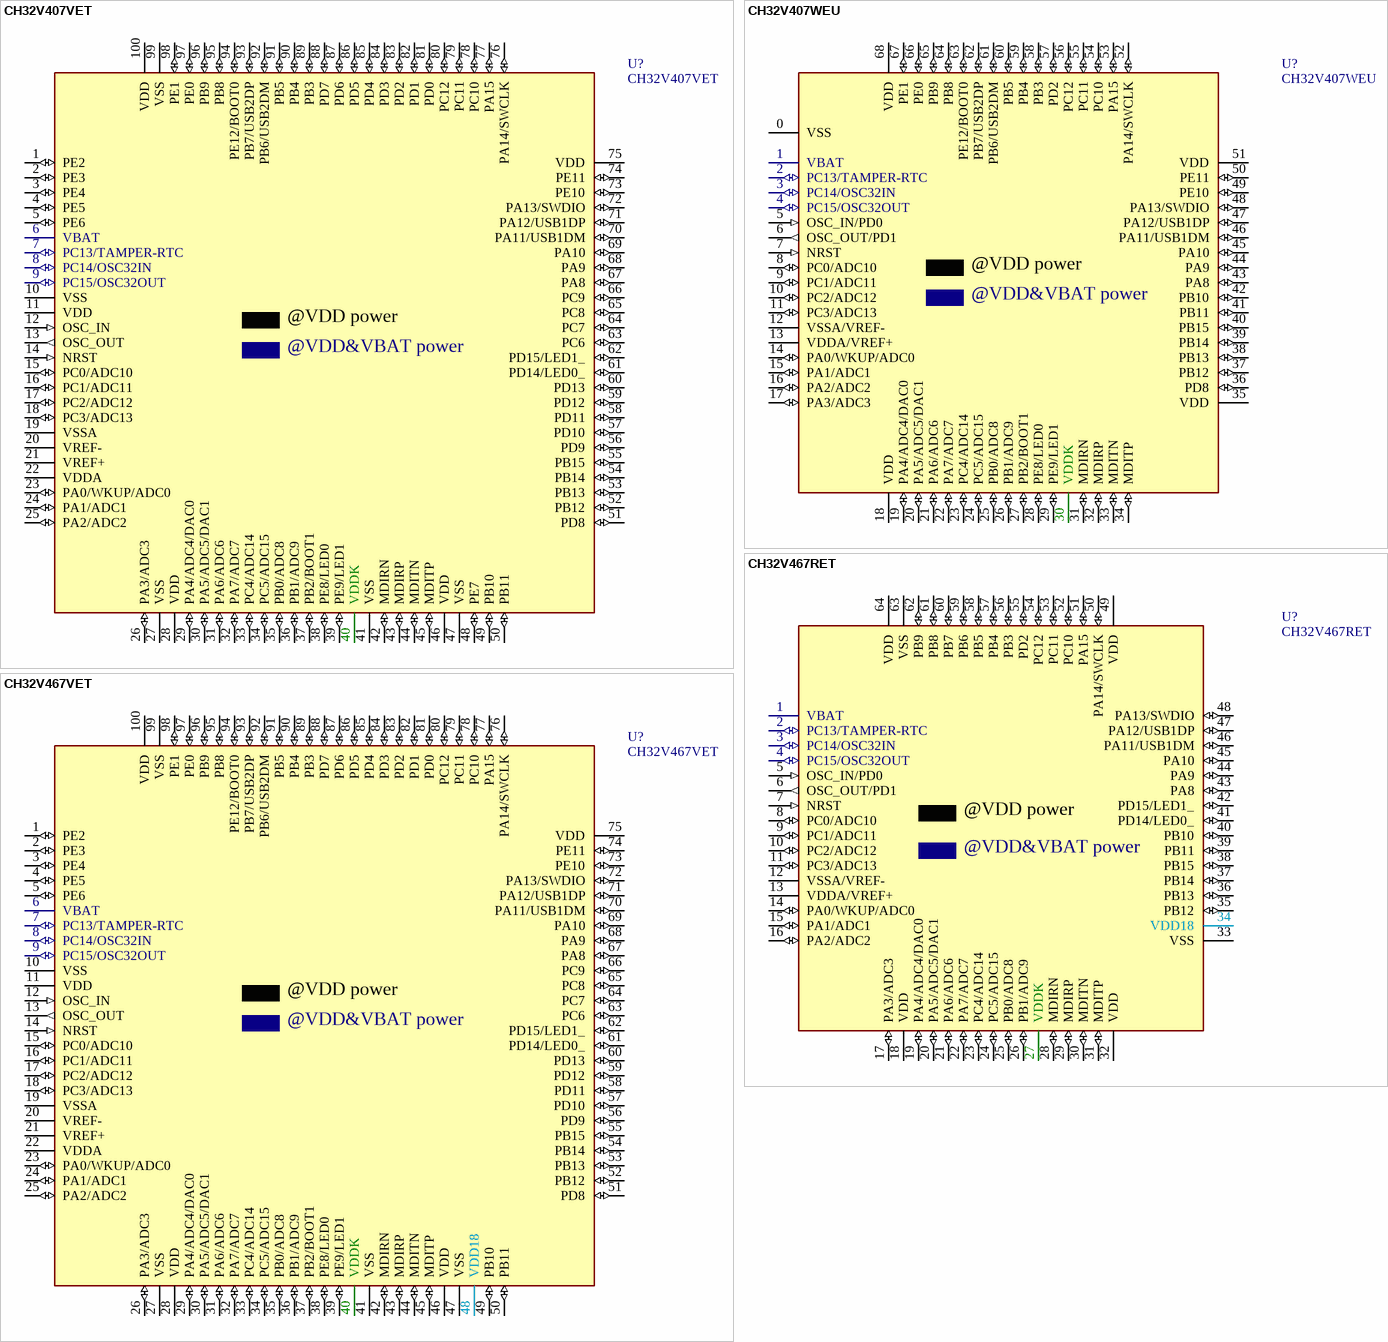
[diagram p17: symbols CH32V407VET to CH32V467VET]

## CH32V407VET
designator U?
RISC-V FPU HD-MCU, 175MHz, USB_480M, 100M Ethernet & Phy, CAN, DVP, ADC, DAC
footprint LQFP100
pins: 1 PE2 (io), 2 PE3 (io), 3 PE4 (io), 4 PE5 (io), 5 PE6 (io), 6 VBAT (power), 7 PC13/TAMPER-RTC (io), 8 PC14/OSC32IN (io), 9 PC15/OSC32OUT (io), 10 VSS (power), 11 VDD (power), 12 OSC_IN (in), 13 OSC_OUT (out), 14 NRST (in), 15 PC0/ADC10 (io), 16 PC1/ADC11 (io), 17 PC2/ADC12 (io), 18 PC3/ADC13 (io), 19 VSSA (power), 20 VREF- (power), 21 VREF+ (power), 22 VDDA (power), 23 PA0/WKUP/ADC0 (io), 24 PA1/ADC1 (io), 25 PA2/ADC2 (io), 26 PA3/ADC3 (io), 27 VSS (power), 28 VDD (power), 29 PA4/ADC4/DAC0 (io), 30 PA5/ADC5/DAC1 (io), 31 PA6/ADC6 (io), 32 PA7/ADC7 (io), 33 PC4/ADC14 (io), 34 PC5/ADC15 (io), 35 PB0/ADC8 (io), 36 PB1/ADC9 (io), 37 PB2/BOOT1 (io), 38 PE8/LED0 (io), 39 PE9/LED1 (io), 40 VDDK (power), 41 VSS (power), 42 MDIRN (io), 43 MDIRP (io), 44 MDITN (io), 45 MDITP (io), 46 VDD (power), 47 VSS (power), 48 PE7 (io), 49 PB10 (io), 50 PB11 (io), 51 PD8 (io), 52 PB12 (io), 53 PB13 (io), 54 PB14 (io), 55 PB15 (io), 56 PD9 (io), 57 PD10 (io), 58 PD11 (io), 59 PD12 (io), 60 PD13 (io), 61 PD14/LED0_ (io), 62 PD15/LED1_ (io), 63 PC6 (io), 64 PC7 (io), 65 PC8 (io), 66 PC9 (io), 67 PA8 (io), 68 PA9 (io), 69 PA10 (io), 70 PA11/USB1DM (io), 71 PA12/USB1DP (io), 72 PA13/SWDIO (io), 73 PE10 (io), 74 PE11 (io), 75 VDD (power), 76 PA14/SWCLK (io), 77 PA15 (io), 78 PC10 (io), 79 PC11 (io), 80 PC12 (io), 81 PD0 (io), 82 PD1 (io), 83 PD2 (io), 84 PD3 (io), 85 PD4 (io), 86 PD5 (io), 87 PD6 (io), 88 PD7 (io), 89 PB3 (io), 90 PB4 (io), 91 PB5 (io), 92 PB6/USB2DM (io), 93 PB7/USB2DP (io), 94 PE12/BOOT0 (io), 95 PB8 (io), 96 PB9 (io), 97 PE0 (io), 98 PE1 (io), 99 VSS (power), 100 VDD (power)
text: @VDD power; @VDD&VBAT power

## CH32V407WEU
designator U?
RISC-V FPU HD-MCU, 175MHz, USB_480M, 100M Ethernet & Phy, CAN, ADC, DAC
footprint QFN68_8X8
pins: 0 VSS (power), 1 VBAT (power), 2 PC13/TAMPER-RTC (io), 3 PC14/OSC32IN (io), 4 PC15/OSC32OUT (io), 5 OSC_IN/PD0 (in), 6 OSC_OUT/PD1 (out), 7 NRST (in), 8 PC0/ADC10 (io), 9 PC1/ADC11 (io), 10 PC2/ADC12 (io), 11 PC3/ADC13 (io), 12 VSSA/VREF- (power), 13 VDDA/VREF+ (power), 14 PA0/WKUP/ADC0 (io), 15 PA1/ADC1 (io), 16 PA2/ADC2 (io), 17 PA3/ADC3 (io), 18 VDD (power), 19 PA4/ADC4/DAC0 (io), 20 PA5/ADC5/DAC1 (io), 21 PA6/ADC6 (io), 22 PA7/ADC7 (io), 23 PC4/ADC14 (io), 24 PC5/ADC15 (io), 25 PB0/ADC8 (io), 26 PB1/ADC9 (io), 27 PB2/BOOT1 (io), 28 PE8/LED0 (io), 29 PE9/LED1 (io), 30 VDDK (power), 31 MDIRN (io), 32 MDIRP (io), 33 MDITN (io), 34 MDITP (io), 35 VDD (power), 36 PD8 (io), 37 PB12 (io), 38 PB13 (io), 39 PB14 (io), 40 PB15 (io), 41 PB11 (io), 42 PB10 (io), 43 PA8 (io), 44 PA9 (io), 45 PA10 (io), 46 PA11/USB1DM (io), 47 PA12/USB1DP (io), 48 PA13/SWDIO (io), 49 PE10 (io), 50 PE11 (io), 51 VDD (power), 52 PA14/SWCLK (io), 53 PA15 (io), 54 PC10 (io), 55 PC11 (io), 56 PC12 (io), 57 PD2 (io), 58 PB3 (io), 59 PB4 (io), 60 PB5 (io), 61 PB6/USB2DM (io), 62 PB7/USB2DP (io), 63 PE12/BOOT0 (io), 64 PB8 (io), 65 PB9 (io), 66 PE0 (io), 67 PE1 (io), 68 VDD (power)
text: @VDD power; @VDD&VBAT power

## CH32V467RET
designator U?
RISC-V FPU HD-MCU, 175MHz, USB_480M, 100M Ethernet & Phy, CAN, ADC, DAC, SRAM
footprint LQFP64_7X7 (Footprint not found)
pins: 1 VBAT (power), 2 PC13/TAMPER-RTC (io), 3 PC14/OSC32IN (io), 4 PC15/OSC32OUT (io), 5 OSC_IN/PD0 (in), 6 OSC_OUT/PD1 (out), 7 NRST (in), 8 PC0/ADC10 (io), 9 PC1/ADC11 (io), 10 PC2/ADC12 (io), 11 PC3/ADC13 (io), 12 VSSA/VREF- (power), 13 VDDA/VREF+ (power), 14 PA0/WKUP/ADC0 (io), 15 PA1/ADC1 (io), 16 PA2/ADC2 (io), 17 PA3/ADC3 (io), 18 VDD (power), 19 PA4/ADC4/DAC0 (io), 20 PA5/ADC5/DAC1 (io), 21 PA6/ADC6 (io), 22 PA7/ADC7 (io), 23 PC4/ADC14 (io), 24 PC5/ADC15 (io), 25 PB0/ADC8 (io), 26 PB1/ADC9 (io), 27 VDDK (power), 28 MDIRN (io), 29 MDIRP (io), 30 MDITN (io), 31 MDITP (io), 32 VDD (power), 33 VSS (power), 34 VDD18 (power), 35 PB12 (io), 36 PB13 (io), 37 PB14 (io), 38 PB15 (io), 39 PB11 (io), 40 PB10 (io), 41 PD14/LED0_ (io), 42 PD15/LED1_ (io), 43 PA8 (io), 44 PA9 (io), 45 PA10 (io), 46 PA11/USB1DM (io), 47 PA12/USB1DP (io), 48 PA13/SWDIO (io), 49 VDD (power), 50 PA14/SWCLK (io), 51 PA15 (io), 52 PC10 (io), 53 PC11 (io), 54 PC12 (io), 55 PD2 (io), 56 PB3 (io), 57 PB4 (io), 58 PB5 (io), 59 PB6 (io), 60 PB7 (io), 61 PB8 (io), 62 PB9 (io), 63 VSS (power), 64 VDD (power)
text: @VDD power; @VDD&VBAT power

## CH32V467VET
designator U?
RISC-V FPU HD-MCU, 175MHz, USB_480M, 100M Ethernet & Phy, CAN, DVP, ADC, DAC, SRAM
footprint LQFP100
pins: 1 PE2 (io), 2 PE3 (io), 3 PE4 (io), 4 PE5 (io), 5 PE6 (io), 6 VBAT (power), 7 PC13/TAMPER-RTC (io), 8 PC14/OSC32IN (io), 9 PC15/OSC32OUT (io), 10 VSS (power), 11 VDD (power), 12 OSC_IN (in), 13 OSC_OUT (out), 14 NRST (in), 15 PC0/ADC10 (io), 16 PC1/ADC11 (io), 17 PC2/ADC12 (io), 18 PC3/ADC13 (io), 19 VSSA (power), 20 VREF- (power), 21 VREF+ (power), 22 VDDA (power), 23 PA0/WKUP/ADC0 (io), 24 PA1/ADC1 (io), 25 PA2/ADC2 (io), 26 PA3/ADC3 (io), 27 VSS (power), 28 VDD (power), 29 PA4/ADC4/DAC0 (io), 30 PA5/ADC5/DAC1 (io), 31 PA6/ADC6 (io), 32 PA7/ADC7 (io), 33 PC4/ADC14 (io), 34 PC5/ADC15 (io), 35 PB0/ADC8 (io), 36 PB1/ADC9 (io), 37 PB2/BOOT1 (io), 38 PE8/LED0 (io), 39 PE9/LED1 (io), 40 VDDK (power), 41 VSS (power), 42 MDIRN (io), 43 MDIRP (io), 44 MDITN (io), 45 MDITP (io), 46 VDD (power), 47 VSS (power), 48 VDD18 (power), 49 PB10 (io), 50 PB11 (io), 51 PD8 (io), 52 PB12 (io), 53 PB13 (io), 54 PB14 (io), 55 PB15 (io), 56 PD9 (io), 57 PD10 (io), 58 PD11 (io), 59 PD12 (io), 60 PD13 (io), 61 PD14/LED0_ (io), 62 PD15/LED1_ (io), 63 PC6 (io), 64 PC7 (io), 65 PC8 (io), 66 PC9 (io), 67 PA8 (io), 68 PA9 (io), 69 PA10 (io), 70 PA11/USB1DM (io), 71 PA12/USB1DP (io), 72 PA13/SWDIO (io), 73 PE10 (io), 74 PE11 (io), 75 VDD (power), 76 PA14/SWCLK (io), 77 PA15 (io), 78 PC10 (io), 79 PC11 (io), 80 PC12 (io), 81 PD0 (io), 82 PD1 (io), 83 PD2 (io), 84 PD3 (io), 85 PD4 (io), 86 PD5 (io), 87 PD6 (io), 88 PD7 (io), 89 PB3 (io), 90 PB4 (io), 91 PB5 (io), 92 PB6/USB2DM (io), 93 PB7/USB2DP (io), 94 PE12/BOOT0 (io), 95 PB8 (io), 96 PB9 (io), 97 PE0 (io), 98 PE1 (io), 99 VSS (power), 100 VDD (power)
text: @VDD power; @VDD&VBAT power

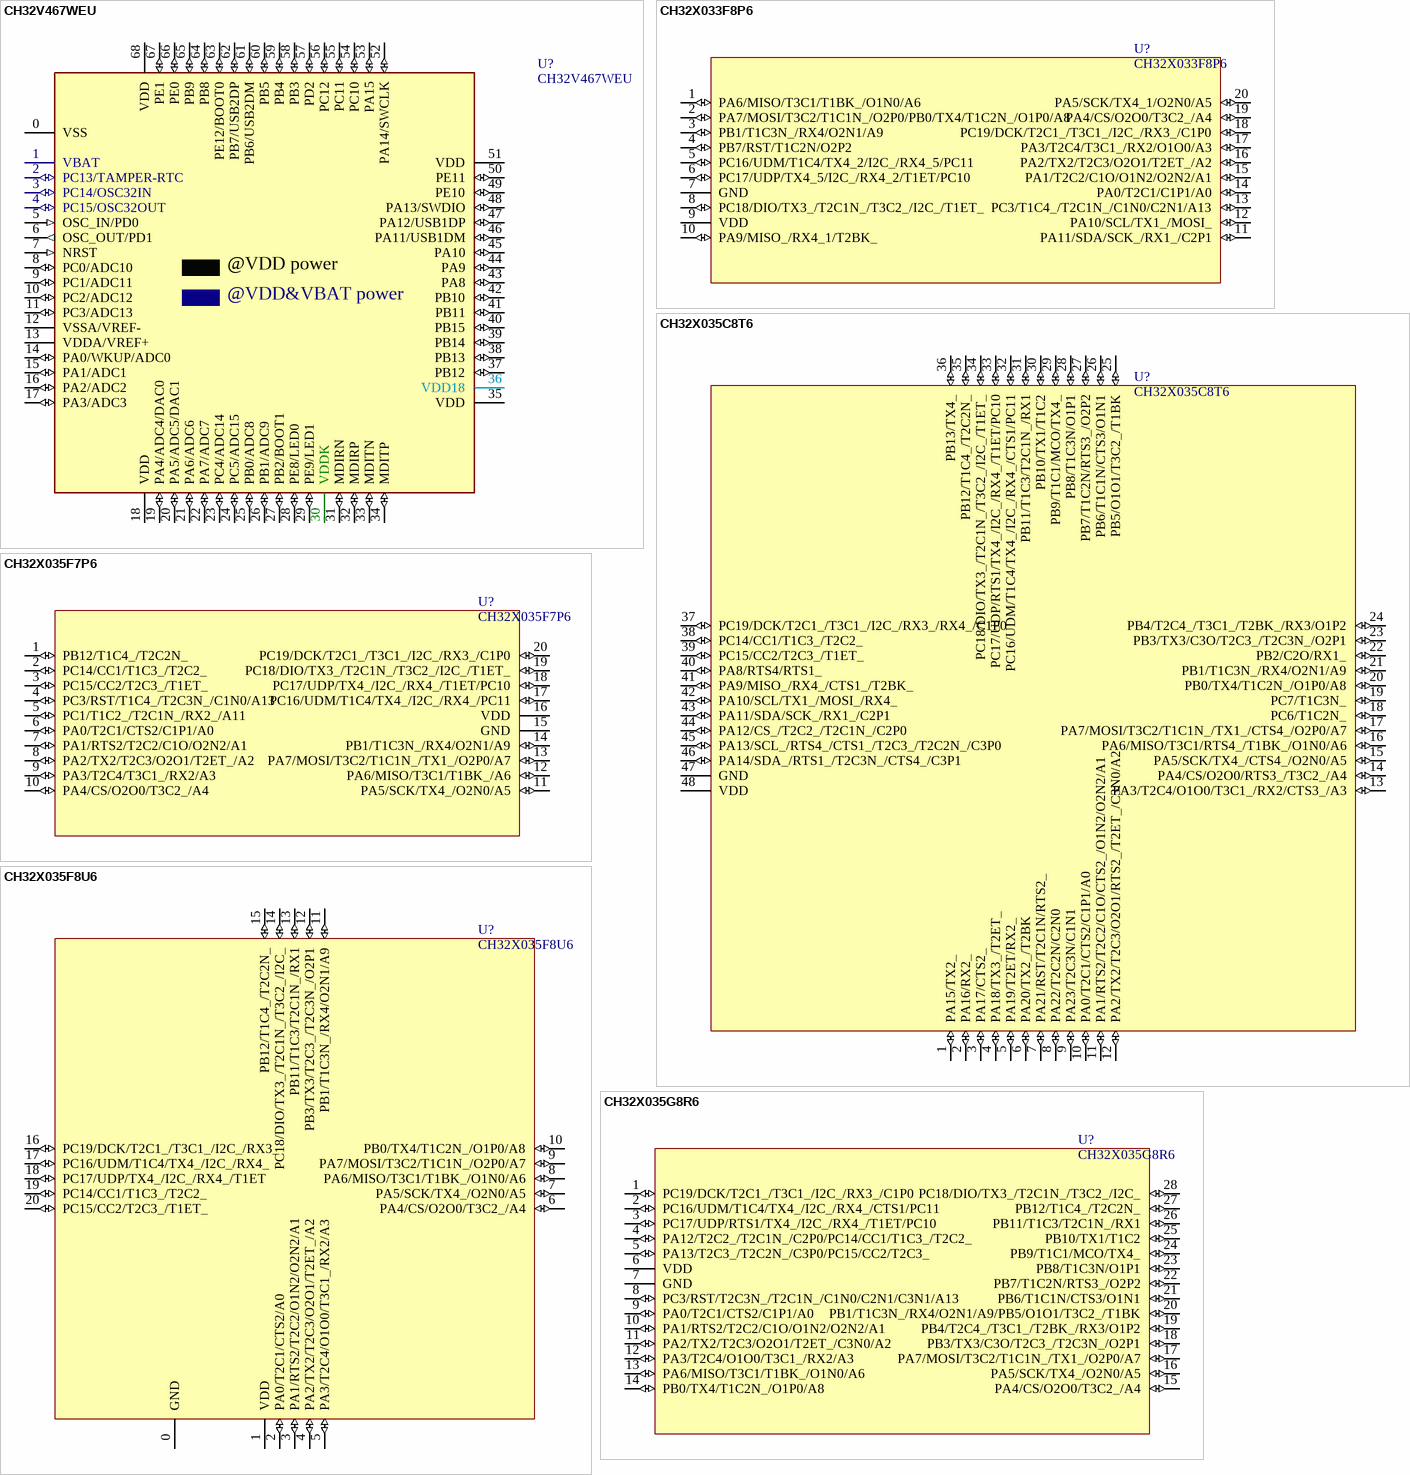
[diagram p18: symbols CH32V467WEU to CH32X035G8R6]

## CH32V467WEU
designator U?
RISC-V FPU HD-MCU, 175MHz, USB_480M, 100M Ethernet & Phy, CAN, ADC, DAC, SRAM
footprint QFN68_8X8
pins: 0 VSS (power), 1 VBAT (power), 2 PC13/TAMPER-RTC (io), 3 PC14/OSC32IN (io), 4 PC15/OSC32OUT (io), 5 OSC_IN/PD0 (in), 6 OSC_OUT/PD1 (out), 7 NRST (in), 8 PC0/ADC10 (io), 9 PC1/ADC11 (io), 10 PC2/ADC12 (io), 11 PC3/ADC13 (io), 12 VSSA/VREF- (power), 13 VDDA/VREF+ (power), 14 PA0/WKUP/ADC0 (io), 15 PA1/ADC1 (io), 16 PA2/ADC2 (io), 17 PA3/ADC3 (io), 18 VDD (power), 19 PA4/ADC4/DAC0 (io), 20 PA5/ADC5/DAC1 (io), 21 PA6/ADC6 (io), 22 PA7/ADC7 (io), 23 PC4/ADC14 (io), 24 PC5/ADC15 (io), 25 PB0/ADC8 (io), 26 PB1/ADC9 (io), 27 PB2/BOOT1 (io), 28 PE8/LED0 (io), 29 PE9/LED1 (io), 30 VDDK (power), 31 MDIRN (io), 32 MDIRP (io), 33 MDITN (io), 34 MDITP (io), 35 VDD (power), 36 VDD18 (power), 37 PB12 (io), 38 PB13 (io), 39 PB14 (io), 40 PB15 (io), 41 PB11 (io), 42 PB10 (io), 43 PA8 (io), 44 PA9 (io), 45 PA10 (io), 46 PA11/USB1DM (io), 47 PA12/USB1DP (io), 48 PA13/SWDIO (io), 49 PE10 (io), 50 PE11 (io), 51 VDD (power), 52 PA14/SWCLK (io), 53 PA15 (io), 54 PC10 (io), 55 PC11 (io), 56 PC12 (io), 57 PD2 (io), 58 PB3 (io), 59 PB4 (io), 60 PB5 (io), 61 PB6/USB2DM (io), 62 PB7/USB2DP (io), 63 PE12/BOOT0 (io), 64 PB8 (io), 65 PB9 (io), 66 PE0 (io), 67 PE1 (io), 68 VDD (power)
text: @VDD power; @VDD&VBAT power

## CH32X033F8P6
designator U?
RISC-V MCU with USB/ADC/SPI/I2C/UART*4/OA*2/CMP*2
footprint TSSOP20 (Footprint not found)
pins: 1 PA6/MISO/T3C1/T1BK_/O1N0/A6 (io), 2 PA7/MOSI/T3C2/T1C1N_/O2P0/PB0/TX4/T1C2N_/O1P0/A8 (io), 3 PB1/T1C3N_/RX4/O2N1/A9 (io), 4 PB7/RST/T1C2N/O2P2 (io), 5 PC16/UDM/T1C4/TX4_2/I2C_/RX4_5/PC11 (io), 6 PC17/UDP/TX4_5/I2C_/RX4_2/T1ET/PC10 (io), 7 GND (power), 8 PC18/DIO/TX3_/T2C1N_/T3C2_/I2C_/T1ET_ (io), 9 VDD (power), 10 PA9/MISO_/RX4_1/T2BK_ (io), 11 PA11/SDA/SCK_/RX1_/C2P1 (io), 12 PA10/SCL/TX1_/MOSI_ (io), 13 PC3/T1C4_/T2C1N_/C1N0/C2N1/A13 (io), 14 PA0/T2C1/C1P1/A0 (io), 15 PA1/T2C2/C1O/O1N2/O2N2/A1 (io), 16 PA2/TX2/T2C3/O2O1/T2ET_/A2 (io), 17 PA3/T2C4/T3C1_/RX2/O1O0/A3 (io), 18 PC19/DCK/T2C1_/T3C1_/I2C_/RX3_/C1P0 (io), 19 PA4/CS/O2O0/T3C2_/A4 (io), 20 PA5/SCK/TX4_1/O2N0/A5 (io)